# Altium integrated library Motorola Microcontroller 32-Bit.IntLib: 337 symbols (part 23 of 29)
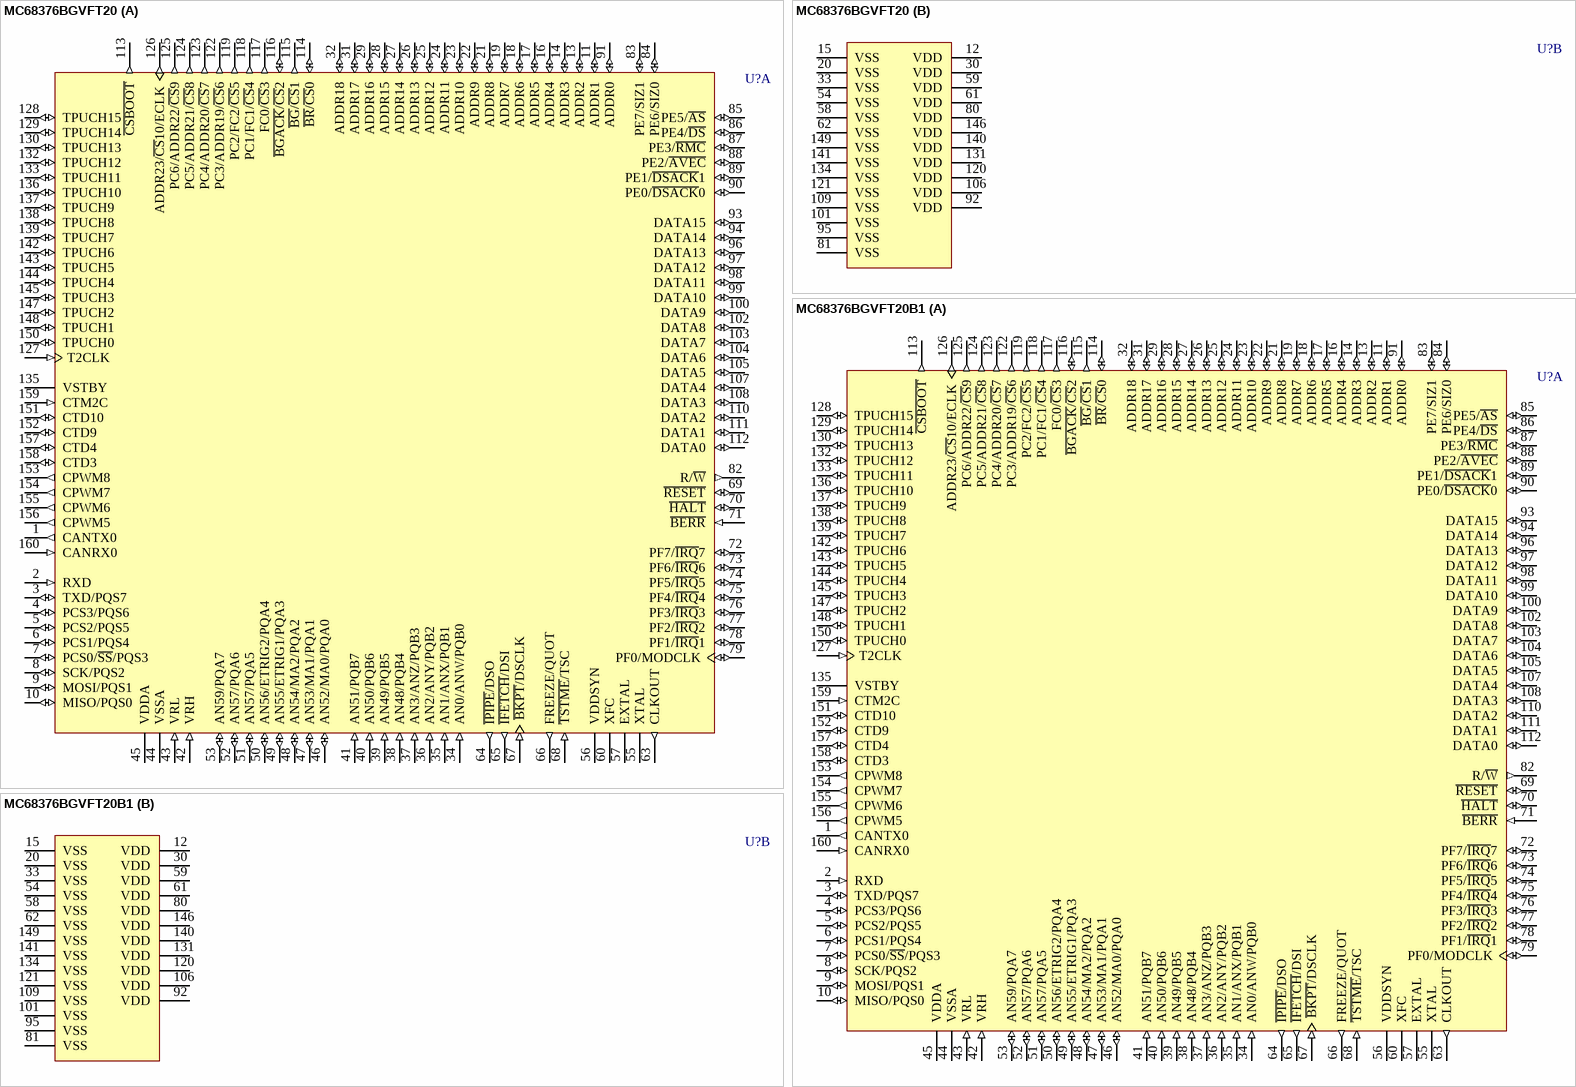
[diagram p261: symbols MC68376BGVFT20 to MC68376BGVFT20B1]

## MC68376BGVFT20
designator U?
32-Bit Microcontroller; Published: 21-Mar-2003; LatestRevisionDate: 13-Apr-2006; LatestRevisionNote: IPC-7351 Footprint Added.; DatasheetVersion: 15-Oct-2000; PackageVersion: 1996; PackageReference: 864A-03; Publisher: Altium Limited; PackageDescription: 160-Pin Plastic Quad Flat Pack 0.65 mm Pitch; Code_IPC: QFP65P3120X3120-160; ComponentLink1Description: Manufacturer Link; ComponentLink1URL: http://www.freescale.com/; ComponentLink2Description: Datasheet; ComponentLink2URL: http://www.freescale.com/files/microcontrollers/doc/data_sheet/MC683336_376UM_ZIP.zip
footprint 864A-03_N (QFP, 160-Leads, Body 28 x 28mm, Pitch 0.65mm, IPC Medium Density)
footprint 864A-03_L (QFP, 160-Leads, Body 28 x 28mm, Pitch 0.65mm, IPC High Density)
footprint 864A-03_M (QFP, 160-Leads, Body 28 x 28mm, Pitch 0.65mm, IPC Low Density)
3D model MC68376-864A-03 (160-Pin Plastic Quad Flat Pack 0.65 mm Pitch)
part A pins: 1 CANTX0 (out), 2 RXD (in), 3 TXD/PQS7 (io), 4 PCS3/PQS6 (io), 5 PCS2/PQS5 (io), 6 PCS1/PQS4 (io), 7 PCS0/~{SS}/PQS3 (io), 8 SCK/PQS2 (io), 9 MOSI/PQS1 (io), 10 MISO/PQS0 (io), 11 ADDR1 (io), 13 ADDR2 (io), 14 ADDR3 (io), 16 ADDR4 (io), 17 ADDR5 (io), 18 ADDR6 (io), 19 ADDR7 (io), 21 ADDR8 (io), 22 ADDR9 (io), 23 ADDR10 (io), 24 ADDR11 (io), 25 ADDR12 (io), 26 ADDR13 (io), 27 ADDR14 (io), 28 ADDR15 (io), 29 ADDR16 (io), 31 ADDR17 (io), 32 ADDR18 (io), 34 AN0/ANW/PQB0 (in), 35 AN1/ANX/PQB1 (in), 36 AN2/ANY/PQB2 (in), 37 AN3/ANZ/PQB3 (in), 38 AN48/PQB4 (in), 39 AN49/PQB5 (in), 40 AN50/PQB6 (in), 41 AN51/PQB7 (in), 42 VRH (in), 43 VRL (in), 44 VSSA (power), 45 VDDA (power), 46 AN52/MA0/PQA0 (io), 47 AN53/MA1/PQA1 (io), 48 AN54/MA2/PQA2 (io), 49 AN55/ETRIG1/PQA3 (io), 50 AN56/ETRIG2/PQA4 (io), 51 AN57/PQA5 (io), 52 AN57/PQA6 (io), 53 AN59/PQA7 (io), 55 XTAL, 56 VDDSYN (power), 57 EXTAL, 60 XFC, 63 CLKOUT (out), 64 ~{IPIPE}/DSO (out), 65 ~{IFETCH}/DSI (out), 66 FREEZE/QUOT (out), 67 ~{BKPT}/DSCLK (in), 68 ~{TSTME}/TSC (in), 69 ~{RESET} (io), 70 ~{HALT} (io), 71 ~{BERR} (in), 72 PF7/~{IRQ}7 (io), 73 PF6/~{IRQ}6 (io), 74 PF5/~{IRQ}5 (io), 75 PF4/~{IRQ}4 (io), 76 PF3/~{IRQ}3 (io), 77 PF2/~{IRQ}2 (io), 78 PF1/~{IRQ}1 (io), 79 PF0/MODCLK (io), 82 R/~{W} (out), 83 PE7/SIZ1 (io), 84 PE6/SIZ0 (io), 85 PE5/~{AS} (io), 86 PE4/~{DS} (io), 87 PE3/~{RMC} (io), 88 PE2/~{AVEC} (io), 89 PE1/~{DSACK}1 (io), 90 PE0/~{DSACK}0 (io), 91 ADDR0 (io), 93 DATA15 (io), 94 DATA14 (io), 96 DATA13 (io), 97 DATA12 (io), 98 DATA11 (io), 99 DATA10 (io), 100 DATA9 (io), 102 DATA8 (io), 103 DATA7 (io), 104 DATA6 (io), 105 DATA5 (io), 107 DATA4 (io), 108 DATA3 (io), 110 DATA2 (io), 111 DATA1 (io), 112 DATA0 (io), 113 ~{CSBOOT} (out), 114 ~{BR}/~{CS}0 (io), 115 ~{BG}/~{CS}1 (out), 116 ~{BGACK}/~{CS}2 (io), 117 FC0/~{CS}3 (out), 118 PC1/FC1/~{CS}4 (out), 119 PC2/FC2/~{CS}5 (out), 122 PC3/ADDR19/~{CS}6 (out), 123 PC4/ADDR20/~{CS}7 (out), 124 PC5/ADDR21/~{CS}8 (out), 125 PC6/ADDR22/~{CS}9 (out), 126 ADDR23/~{CS}10/ECLK (out), 127 T2CLK (in), 128 TPUCH15 (io), 129 TPUCH14 (io), 130 TPUCH13 (io), 132 TPUCH12 (io), 133 TPUCH11 (io), 135 VSTBY (power), 136 TPUCH10 (io), 137 TPUCH9 (io), 138 TPUCH8 (io), 139 TPUCH7 (io), 142 TPUCH6 (io), 143 TPUCH5 (io), 144 TPUCH4 (io), 145 TPUCH3 (io), 147 TPUCH2 (io), 148 TPUCH1 (io), 150 TPUCH0 (io), 151 CTD10 (io), 152 CTD9 (io), 153 CPWM8 (out), 154 CPWM7 (out), 155 CPWM6 (out), 156 CPWM5 (out), 157 CTD4 (io), 158 CTD3 (io), 159 CTM2C (in), 160 CANRX0 (in)
part B pins: 12 VDD (power), 15 VSS (power), 20 VSS (power), 30 VDD (power), 33 VSS (power), 54 VSS (power), 58 VSS (power), 59 VDD (power), 61 VDD (power), 62 VSS (power), 80 VDD (power), 81 VSS (power), 92 VDD (power), 95 VSS (power), 101 VSS (power), 106 VDD (power), 109 VSS (power), 120 VDD (power), 121 VSS (power), 131 VDD (power), 134 VSS (power), 140 VDD (power), 141 VSS (power), 146 VDD (power), 149 VSS (power)

## MC68376BGVFT20B1
designator U?
32-Bit Microcontroller; Published: 21-Mar-2003; LatestRevisionDate: 13-Apr-2006; LatestRevisionNote: IPC-7351 Footprint Added.; DatasheetVersion: 15-Oct-2000; PackageVersion: 1996; PackageReference: 864A-03; Publisher: Altium Limited; PackageDescription: 160-Pin Plastic Quad Flat Pack 0.65 mm Pitch; Code_IPC: QFP65P3120X3120-160; ComponentLink1Description: Manufacturer Link; ComponentLink1URL: http://www.freescale.com/; ComponentLink2Description: Datasheet; ComponentLink2URL: http://www.freescale.com/files/microcontrollers/doc/data_sheet/MC683336_376UM_ZIP.zip
footprint 864A-03_N (QFP, 160-Leads, Body 28 x 28mm, Pitch 0.65mm, IPC Medium Density)
footprint 864A-03_L (QFP, 160-Leads, Body 28 x 28mm, Pitch 0.65mm, IPC High Density)
footprint 864A-03_M (QFP, 160-Leads, Body 28 x 28mm, Pitch 0.65mm, IPC Low Density)
3D model MC68376-864A-03 (160-Pin Plastic Quad Flat Pack 0.65 mm Pitch)
part A pins: 1 CANTX0 (out), 2 RXD (in), 3 TXD/PQS7 (io), 4 PCS3/PQS6 (io), 5 PCS2/PQS5 (io), 6 PCS1/PQS4 (io), 7 PCS0/~{SS}/PQS3 (io), 8 SCK/PQS2 (io), 9 MOSI/PQS1 (io), 10 MISO/PQS0 (io), 11 ADDR1 (io), 13 ADDR2 (io), 14 ADDR3 (io), 16 ADDR4 (io), 17 ADDR5 (io), 18 ADDR6 (io), 19 ADDR7 (io), 21 ADDR8 (io), 22 ADDR9 (io), 23 ADDR10 (io), 24 ADDR11 (io), 25 ADDR12 (io), 26 ADDR13 (io), 27 ADDR14 (io), 28 ADDR15 (io), 29 ADDR16 (io), 31 ADDR17 (io), 32 ADDR18 (io), 34 AN0/ANW/PQB0 (in), 35 AN1/ANX/PQB1 (in), 36 AN2/ANY/PQB2 (in), 37 AN3/ANZ/PQB3 (in), 38 AN48/PQB4 (in), 39 AN49/PQB5 (in), 40 AN50/PQB6 (in), 41 AN51/PQB7 (in), 42 VRH (in), 43 VRL (in), 44 VSSA (power), 45 VDDA (power), 46 AN52/MA0/PQA0 (io), 47 AN53/MA1/PQA1 (io), 48 AN54/MA2/PQA2 (io), 49 AN55/ETRIG1/PQA3 (io), 50 AN56/ETRIG2/PQA4 (io), 51 AN57/PQA5 (io), 52 AN57/PQA6 (io), 53 AN59/PQA7 (io), 55 XTAL, 56 VDDSYN (power), 57 EXTAL, 60 XFC, 63 CLKOUT (out), 64 ~{IPIPE}/DSO (out), 65 ~{IFETCH}/DSI (out), 66 FREEZE/QUOT (out), 67 ~{BKPT}/DSCLK (in), 68 ~{TSTME}/TSC (in), 69 ~{RESET} (io), 70 ~{HALT} (io), 71 ~{BERR} (in), 72 PF7/~{IRQ}7 (io), 73 PF6/~{IRQ}6 (io), 74 PF5/~{IRQ}5 (io), 75 PF4/~{IRQ}4 (io), 76 PF3/~{IRQ}3 (io), 77 PF2/~{IRQ}2 (io), 78 PF1/~{IRQ}1 (io), 79 PF0/MODCLK (io), 82 R/~{W} (out), 83 PE7/SIZ1 (io), 84 PE6/SIZ0 (io), 85 PE5/~{AS} (io), 86 PE4/~{DS} (io), 87 PE3/~{RMC} (io), 88 PE2/~{AVEC} (io), 89 PE1/~{DSACK}1 (io), 90 PE0/~{DSACK}0 (io), 91 ADDR0 (io), 93 DATA15 (io), 94 DATA14 (io), 96 DATA13 (io), 97 DATA12 (io), 98 DATA11 (io), 99 DATA10 (io), 100 DATA9 (io), 102 DATA8 (io), 103 DATA7 (io), 104 DATA6 (io), 105 DATA5 (io), 107 DATA4 (io), 108 DATA3 (io), 110 DATA2 (io), 111 DATA1 (io), 112 DATA0 (io), 113 ~{CSBOOT} (out), 114 ~{BR}/~{CS}0 (io), 115 ~{BG}/~{CS}1 (out), 116 ~{BGACK}/~{CS}2 (io), 117 FC0/~{CS}3 (out), 118 PC1/FC1/~{CS}4 (out), 119 PC2/FC2/~{CS}5 (out), 122 PC3/ADDR19/~{CS}6 (out), 123 PC4/ADDR20/~{CS}7 (out), 124 PC5/ADDR21/~{CS}8 (out), 125 PC6/ADDR22/~{CS}9 (out), 126 ADDR23/~{CS}10/ECLK (out), 127 T2CLK (in), 128 TPUCH15 (io), 129 TPUCH14 (io), 130 TPUCH13 (io), 132 TPUCH12 (io), 133 TPUCH11 (io), 135 VSTBY (power), 136 TPUCH10 (io), 137 TPUCH9 (io), 138 TPUCH8 (io), 139 TPUCH7 (io), 142 TPUCH6 (io), 143 TPUCH5 (io), 144 TPUCH4 (io), 145 TPUCH3 (io), 147 TPUCH2 (io), 148 TPUCH1 (io), 150 TPUCH0 (io), 151 CTD10 (io), 152 CTD9 (io), 153 CPWM8 (out), 154 CPWM7 (out), 155 CPWM6 (out), 156 CPWM5 (out), 157 CTD4 (io), 158 CTD3 (io), 159 CTM2C (in), 160 CANRX0 (in)
part B pins: 12 VDD (power), 15 VSS (power), 20 VSS (power), 30 VDD (power), 33 VSS (power), 54 VSS (power), 58 VSS (power), 59 VDD (power), 61 VDD (power), 62 VSS (power), 80 VDD (power), 81 VSS (power), 92 VDD (power), 95 VSS (power), 101 VSS (power), 106 VDD (power), 109 VSS (power), 120 VDD (power), 121 VSS (power), 131 VDD (power), 134 VSS (power), 140 VDD (power), 141 VSS (power), 146 VDD (power), 149 VSS (power)

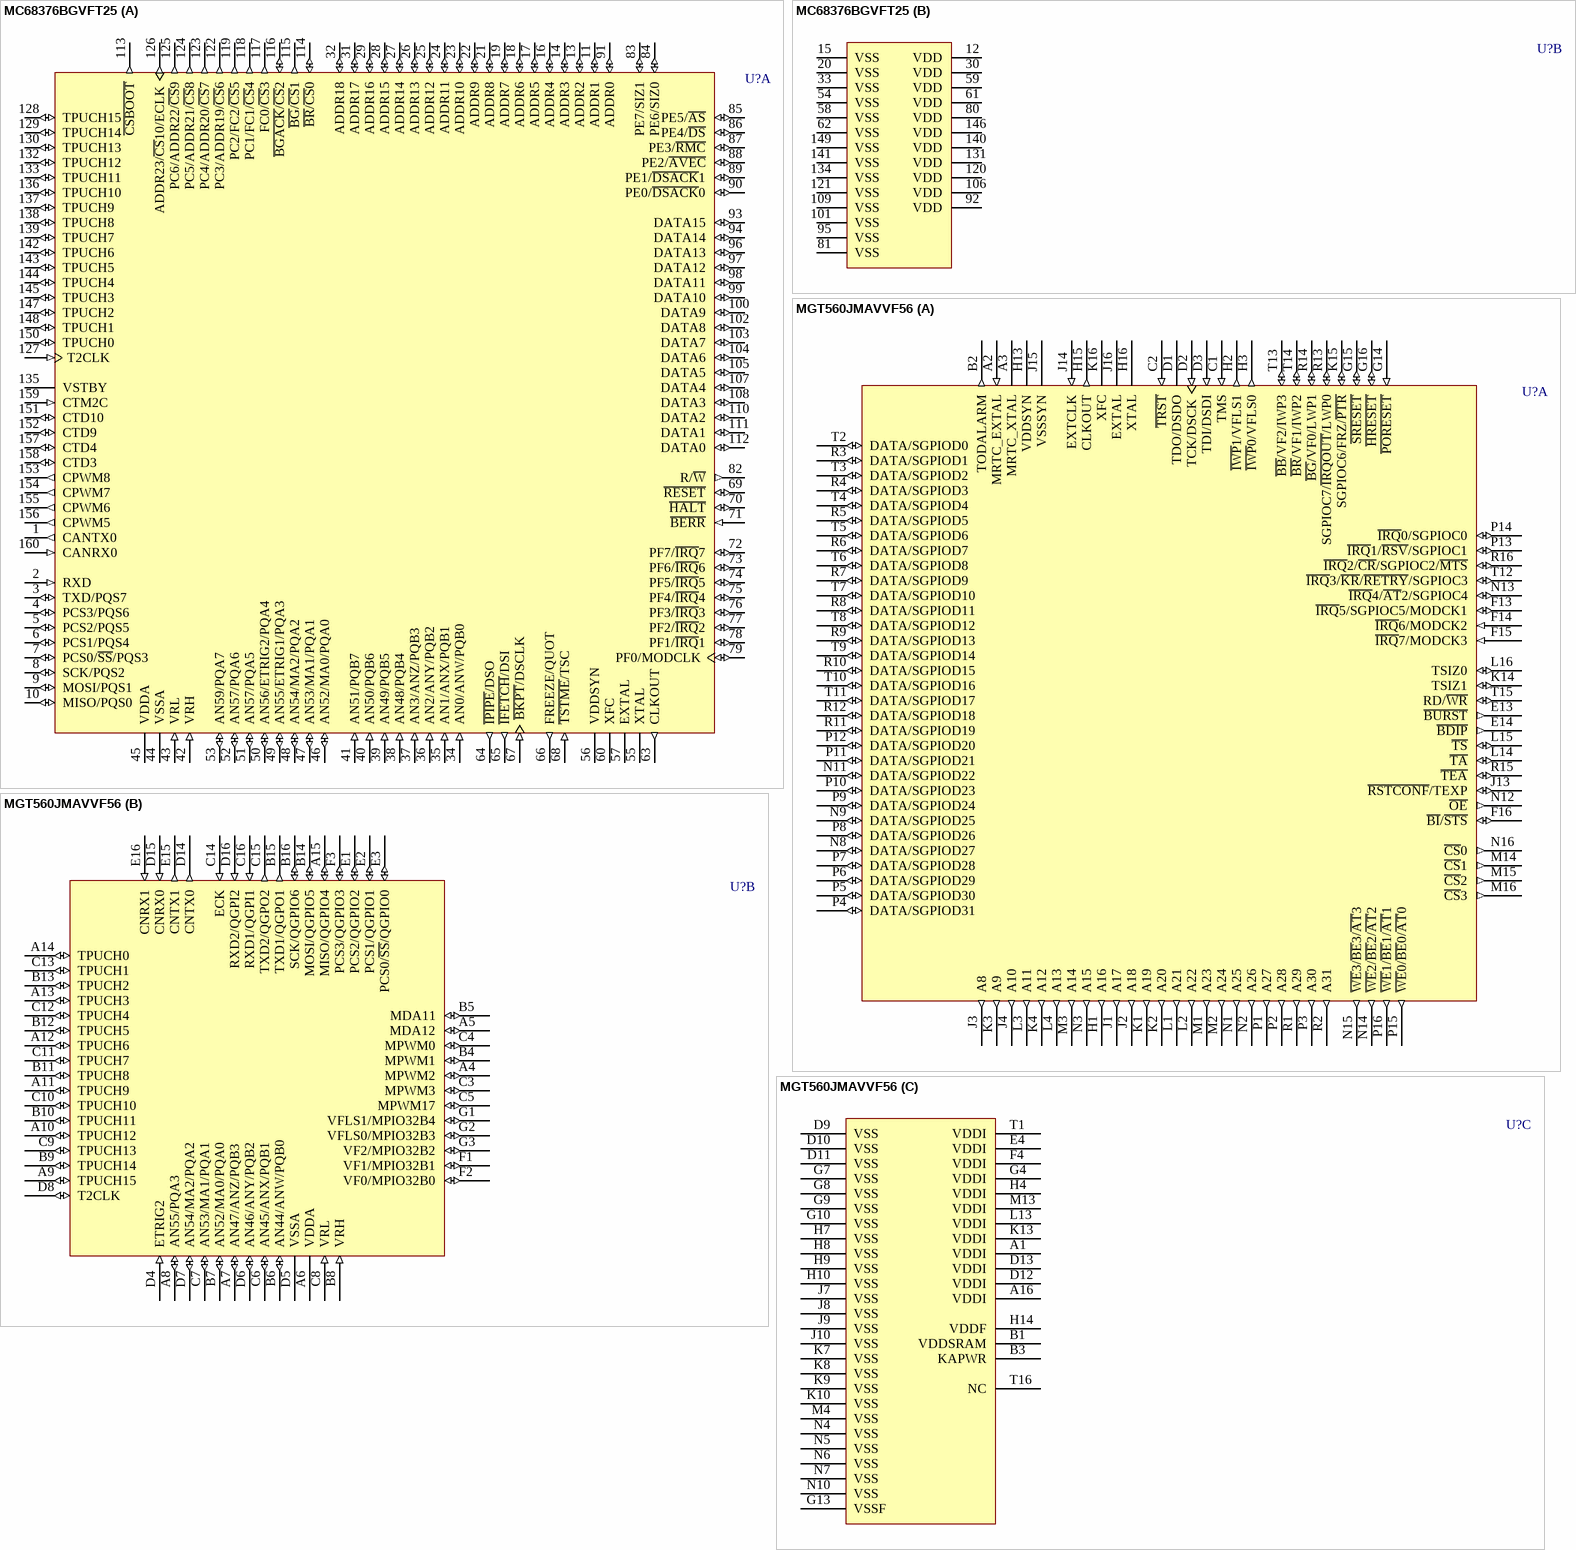
[diagram p191: symbols MC68376BGVFT25 to MGT560JMAVVF56]

## MC68376BGVFT25
designator U?
32-Bit Microcontroller; Published: 21-Mar-2003; LatestRevisionDate: 13-Apr-2006; LatestRevisionNote: IPC-7351 Footprint Added.; DatasheetVersion: 15-Oct-2000; PackageVersion: 1996; PackageReference: 864A-03; Publisher: Altium Limited; PackageDescription: 160-Pin Plastic Quad Flat Pack 0.65 mm Pitch; Code_IPC: QFP65P3120X3120-160; ComponentLink1Description: Manufacturer Link; ComponentLink1URL: http://www.freescale.com/; ComponentLink2Description: Datasheet; ComponentLink2URL: http://www.freescale.com/files/microcontrollers/doc/data_sheet/MC683336_376UM_ZIP.zip
footprint 864A-03_N (QFP, 160-Leads, Body 28 x 28mm, Pitch 0.65mm, IPC Medium Density)
footprint 864A-03_L (QFP, 160-Leads, Body 28 x 28mm, Pitch 0.65mm, IPC High Density)
footprint 864A-03_M (QFP, 160-Leads, Body 28 x 28mm, Pitch 0.65mm, IPC Low Density)
3D model MC68376-864A-03 (160-Pin Plastic Quad Flat Pack 0.65 mm Pitch)
part A pins: 1 CANTX0 (out), 2 RXD (in), 3 TXD/PQS7 (io), 4 PCS3/PQS6 (io), 5 PCS2/PQS5 (io), 6 PCS1/PQS4 (io), 7 PCS0/~{SS}/PQS3 (io), 8 SCK/PQS2 (io), 9 MOSI/PQS1 (io), 10 MISO/PQS0 (io), 11 ADDR1 (io), 13 ADDR2 (io), 14 ADDR3 (io), 16 ADDR4 (io), 17 ADDR5 (io), 18 ADDR6 (io), 19 ADDR7 (io), 21 ADDR8 (io), 22 ADDR9 (io), 23 ADDR10 (io), 24 ADDR11 (io), 25 ADDR12 (io), 26 ADDR13 (io), 27 ADDR14 (io), 28 ADDR15 (io), 29 ADDR16 (io), 31 ADDR17 (io), 32 ADDR18 (io), 34 AN0/ANW/PQB0 (in), 35 AN1/ANX/PQB1 (in), 36 AN2/ANY/PQB2 (in), 37 AN3/ANZ/PQB3 (in), 38 AN48/PQB4 (in), 39 AN49/PQB5 (in), 40 AN50/PQB6 (in), 41 AN51/PQB7 (in), 42 VRH (in), 43 VRL (in), 44 VSSA (power), 45 VDDA (power), 46 AN52/MA0/PQA0 (io), 47 AN53/MA1/PQA1 (io), 48 AN54/MA2/PQA2 (io), 49 AN55/ETRIG1/PQA3 (io), 50 AN56/ETRIG2/PQA4 (io), 51 AN57/PQA5 (io), 52 AN57/PQA6 (io), 53 AN59/PQA7 (io), 55 XTAL, 56 VDDSYN (power), 57 EXTAL, 60 XFC, 63 CLKOUT (out), 64 ~{IPIPE}/DSO (out), 65 ~{IFETCH}/DSI (out), 66 FREEZE/QUOT (out), 67 ~{BKPT}/DSCLK (in), 68 ~{TSTME}/TSC (in), 69 ~{RESET} (io), 70 ~{HALT} (io), 71 ~{BERR} (in), 72 PF7/~{IRQ}7 (io), 73 PF6/~{IRQ}6 (io), 74 PF5/~{IRQ}5 (io), 75 PF4/~{IRQ}4 (io), 76 PF3/~{IRQ}3 (io), 77 PF2/~{IRQ}2 (io), 78 PF1/~{IRQ}1 (io), 79 PF0/MODCLK (io), 82 R/~{W} (out), 83 PE7/SIZ1 (io), 84 PE6/SIZ0 (io), 85 PE5/~{AS} (io), 86 PE4/~{DS} (io), 87 PE3/~{RMC} (io), 88 PE2/~{AVEC} (io), 89 PE1/~{DSACK}1 (io), 90 PE0/~{DSACK}0 (io), 91 ADDR0 (io), 93 DATA15 (io), 94 DATA14 (io), 96 DATA13 (io), 97 DATA12 (io), 98 DATA11 (io), 99 DATA10 (io), 100 DATA9 (io), 102 DATA8 (io), 103 DATA7 (io), 104 DATA6 (io), 105 DATA5 (io), 107 DATA4 (io), 108 DATA3 (io), 110 DATA2 (io), 111 DATA1 (io), 112 DATA0 (io), 113 ~{CSBOOT} (out), 114 ~{BR}/~{CS}0 (io), 115 ~{BG}/~{CS}1 (out), 116 ~{BGACK}/~{CS}2 (io), 117 FC0/~{CS}3 (out), 118 PC1/FC1/~{CS}4 (out), 119 PC2/FC2/~{CS}5 (out), 122 PC3/ADDR19/~{CS}6 (out), 123 PC4/ADDR20/~{CS}7 (out), 124 PC5/ADDR21/~{CS}8 (out), 125 PC6/ADDR22/~{CS}9 (out), 126 ADDR23/~{CS}10/ECLK (out), 127 T2CLK (in), 128 TPUCH15 (io), 129 TPUCH14 (io), 130 TPUCH13 (io), 132 TPUCH12 (io), 133 TPUCH11 (io), 135 VSTBY (power), 136 TPUCH10 (io), 137 TPUCH9 (io), 138 TPUCH8 (io), 139 TPUCH7 (io), 142 TPUCH6 (io), 143 TPUCH5 (io), 144 TPUCH4 (io), 145 TPUCH3 (io), 147 TPUCH2 (io), 148 TPUCH1 (io), 150 TPUCH0 (io), 151 CTD10 (io), 152 CTD9 (io), 153 CPWM8 (out), 154 CPWM7 (out), 155 CPWM6 (out), 156 CPWM5 (out), 157 CTD4 (io), 158 CTD3 (io), 159 CTM2C (in), 160 CANRX0 (in)
part B pins: 12 VDD (power), 15 VSS (power), 20 VSS (power), 30 VDD (power), 33 VSS (power), 54 VSS (power), 58 VSS (power), 59 VDD (power), 61 VDD (power), 62 VSS (power), 80 VDD (power), 81 VSS (power), 92 VDD (power), 95 VSS (power), 101 VSS (power), 106 VDD (power), 109 VSS (power), 120 VDD (power), 121 VSS (power), 131 VDD (power), 134 VSS (power), 140 VDD (power), 141 VSS (power), 146 VDD (power), 149 VSS (power)

## MGT560JMAVVF56
designator U?
32-Bit Microcontroller; Published: 21-Mar-2003; LatestRevisionDate: 13-Apr-2006; LatestRevisionNote: IPC-7351 Footprint Added.; DatasheetVersion: 10-Jun-2002; PackageVersion: rev0, Jun-2002; PackageReference: 1159A-01; Publisher: Altium Limited; PackageDescription: 208-Ball MAP-Ball Grid Array 1 mm Pitch; ComponentLink1Description: Manufacturer Link; ComponentLink1URL: http://www.freescale.com/
footprint 1159A-01 (BGA, 208-Leads, Body 17x17mm, Pitch 1mm)
3D model MGT560-1159A-01 (208-Ball MAP-Ball Grid Array 1 mm Pitch)
part A pins: A2 MRTC_EXTAL (in), A3 MRTC_XTAL, B2 TODALARM (out), C1 TMS (in), C2 ~{TRST} (in), D1 TDO/DSDO (hiz), D2 TCK/DSCK (in), D3 TDI/DSDI (in), E13 ~{BURST} (out), E14 ~{BDIP} (out), F13 ~{IRQ}5/SGPIOC5/MODCK1 (io), F14 ~{IRQ}6/MODCK2 (in), F15 ~{IRQ}7/MODCK3 (in), F16 ~{BI}/~{STS} (io), G14 ~{PORESET} (in), G15 ~{SRESET} (io), G16 ~{HRESET} (io), H1 A16 (out), H2 ~{IWP}1/VFLS1 (out), H3 ~{IWP}0/VFLS0 (out), H13 VDDSYN (power), H15 CLKOUT (out), H16 XTAL, J1 A17 (out), J2 A18 (out), J3 A8 (out), J4 A10 (out), J13 ~{RSTCONF}/TEXP (io), J14 EXTCLK (in), J15 VSSSYN (power), J16 EXTAL, K1 A19 (out), K2 A20 (out), K3 A9 (out), K4 A12 (out), K14 TSIZ1 (io), K15 SGPIOC6/FRZ/~{PTR} (io), K16 XFC, L1 A21 (out), L2 A22 (out), L3 A11 (out), L4 A13 (out), L14 ~{TA} (io), L15 ~{TS} (io), L16 TSIZ0 (io), M1 A23 (out), M2 A24 (out), M3 A14 (out), M14 ~{CS}1 (out), M15 ~{CS}2 (out), M16 ~{CS}3 (out), N1 A25 (out), N2 A26 (out), N3 A15 (out), N8 DATA/SGPIOD27 (io), N9 DATA/SGPIOD25 (io), N11 DATA/SGPIOD22 (io), N12 ~{OE} (out), N13 ~{IRQ}4/~{AT}2/SGPIOC4 (io), N14 ~{WE}2/~{BE}2/~{AT}2 (out), N15 ~{WE}3/~{BE}3/~{AT}3 (out), N16 ~{CS}0 (out), P1 A27 (out), P2 A28 (out), P3 A30 (out), P4 DATA/SGPIOD31 (io), P5 DATA/SGPIOD30 (io), P6 DATA/SGPIOD29 (io), P7 DATA/SGPIOD28 (io), P8 DATA/SGPIOD26 (io), P9 DATA/SGPIOD24 (io), P10 DATA/SGPIOD23 (io), P11 DATA/SGPIOD21 (io), P12 DATA/SGPIOD20 (io), P13 ~{IRQ}1/~{RSV}/SGPIOC1 (io), P14 ~{IRQ}0/SGPIOC0 (io), P15 ~{WE}0/~{BE}0/~{AT}0 (out), P16 ~{WE}1/~{BE}1/~{AT}1 (out), R1 A29 (out), R2 A31 (out), R3 DATA/SGPIOD1 (io), R4 DATA/SGPIOD3 (io), R5 DATA/SGPIOD5 (io), R6 DATA/SGPIOD7 (io), R7 DATA/SGPIOD9 (io), R8 DATA/SGPIOD11 (io), R9 DATA/SGPIOD13 (io), R10 DATA/SGPIOD15 (io), R11 DATA/SGPIOD19 (io), R12 DATA/SGPIOD18 (io), R13 SGPIOC7/~{IRQOUT}/LWP0 (io), R14 ~{BG}/VF0/LWP1 (io), R15 ~{TEA} (io), R16 ~{IRQ}2/~{CR}/SGPIOC2/~{MTS} (io), T2 DATA/SGPIOD0 (io), T3 DATA/SGPIOD2 (io), T4 DATA/SGPIOD4 (io), T5 DATA/SGPIOD6 (io), T6 DATA/SGPIOD8 (io), T7 DATA/SGPIOD10 (io), T8 DATA/SGPIOD12 (io), T9 DATA/SGPIOD14 (io), T10 DATA/SGPIOD16 (io), T11 DATA/SGPIOD17 (io), T12 ~{IRQ}3/~{KR}/~{RETRY}/SGPIOC3 (io), T13 ~{BB}/VF2/IWP3 (io), T14 ~{BR}/VF1/IWP2 (io), T15 RD/~{WR} (io)
part B pins: A4 MPWM2 (io), A5 MDA12 (io), A6 VDDA (power), A7 AN47/ANZ/PQB3 (io), A8 AN55/PQA3 (io), A9 TPUCH15 (io), A10 TPUCH12 (io), A11 TPUCH9 (io), A12 TPUCH6 (io), A13 TPUCH3 (io), A14 TPUCH0 (io), A15 MISO/QGPIO4 (io), B4 MPWM1 (io), B5 MDA11 (io), B6 AN44/ANW/PQB0 (io), B7 AN52/MA0/PQA0 (io), B8 VRH (in), B9 TPUCH14 (io), B10 TPUCH11 (io), B11 TPUCH8 (io), B12 TPUCH5 (io), B13 TPUCH2 (io), B14 MOSI/QGPIO5 (io), B15 TXD1/QGPO1 (out), B16 SCK/QGPIO6 (io), C3 MPWM3 (io), C4 MPWM0 (io), C5 MPWM17 (io), C6 AN45/ANX/PQB1 (io), C7 AN53/MA1/PQA1 (io), C8 VRL (in), C9 TPUCH13 (io), C10 TPUCH10 (io), C11 TPUCH7 (io), C12 TPUCH4 (io), C13 TPUCH1 (io), C14 ECK (in), C15 TXD2/QGPO2 (out), C16 RXD1/QGPI1 (in), D4 ETRIG2 (in), D5 VSSA (power), D6 AN46/ANY/PQB2 (io), D7 AN54/MA2/PQA2 (io), D8 T2CLK (io), D14 CNTX0 (out), D15 CNRX0 (in), D16 RXD2/QGPI2 (in), E1 PCS2/QGPIO2 (io), E2 PCS1/QGPIO1 (io), E3 PCS0/~{SS}/QGPIO0 (io), E15 CNTX1 (out), E16 CNRX1 (in), F1 VF1/MPIO32B1 (io), F2 VF0/MPIO32B0 (io), F3 PCS3/QGPIO3 (io), G1 VFLS1/MPIO32B4 (io), G2 VFLS0/MPIO32B3 (io), G3 VF2/MPIO32B2 (io)
part C pins: A1 VDDI (power), A16 VDDI (power), B1 VDDSRAM (power), B3 KAPWR (power), D9 VSS (power), D10 VSS (power), D11 VSS (power), D12 VDDI (power), D13 VDDI (power), E4 VDDI (power), F4 VDDI (power), G4 VDDI (power), G7 VSS (power), G8 VSS (power), G9 VSS (power), G10 VSS (power), G13 VSSF (power), H4 VDDI (power), H7 VSS (power), H8 VSS (power), H9 VSS (power), H10 VSS (power), H14 VDDF (power), J7 VSS (power), J8 VSS (power), J9 VSS (power), J10 VSS (power), K7 VSS (power), K8 VSS (power), K9 VSS (power), K10 VSS (power), K13 VDDI (power), L13 VDDI (power), M4 VSS (power), M13 VDDI (power), N4 VSS (power), N5 VSS (power), N6 VSS (power), N7 VSS (power), N10 VSS (power), T1 VDDI (power), T16 NC

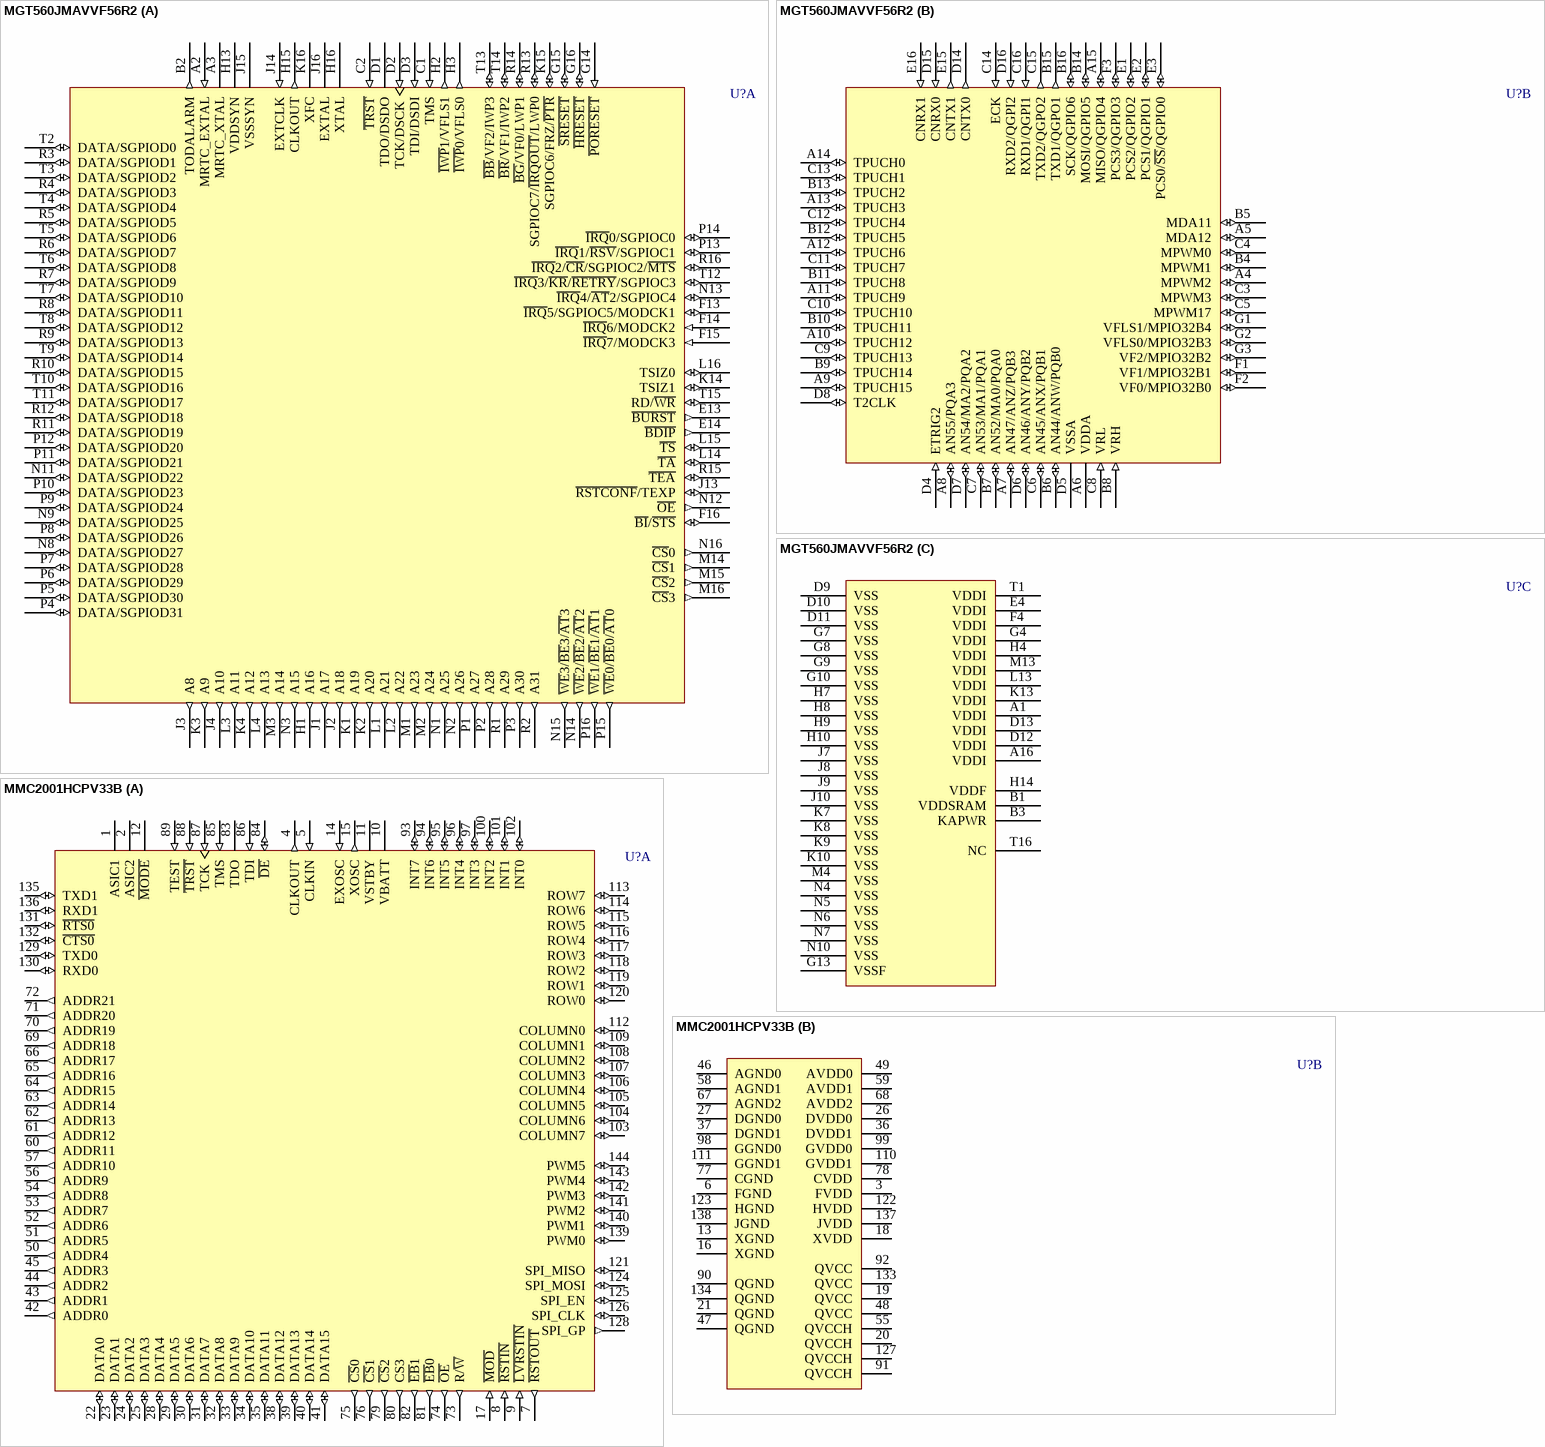
[diagram p192: symbols MGT560JMAVVF56R2 to MMC2001HCPV33B]

## MGT560JMAVVF56R2
designator U?
32-Bit Microcontroller; Published: 21-Mar-2003; LatestRevisionDate: 13-Apr-2006; LatestRevisionNote: IPC-7351 Footprint Added.; DatasheetVersion: 10-Jun-2002; PackageVersion: rev0, Jun-2002; PackageReference: 1159A-01; Publisher: Altium Limited; PackageDescription: 208-Ball MAP-Ball Grid Array 1 mm Pitch; ComponentLink1Description: Manufacturer Link; ComponentLink1URL: http://www.freescale.com/
footprint 1159A-01 (BGA, 208-Leads, Body 17x17mm, Pitch 1mm)
3D model MGT560-1159A-01 (208-Ball MAP-Ball Grid Array 1 mm Pitch)
part A pins: A2 MRTC_EXTAL (in), A3 MRTC_XTAL, B2 TODALARM (out), C1 TMS (in), C2 ~{TRST} (in), D1 TDO/DSDO (hiz), D2 TCK/DSCK (in), D3 TDI/DSDI (in), E13 ~{BURST} (out), E14 ~{BDIP} (out), F13 ~{IRQ}5/SGPIOC5/MODCK1 (io), F14 ~{IRQ}6/MODCK2 (in), F15 ~{IRQ}7/MODCK3 (in), F16 ~{BI}/~{STS} (io), G14 ~{PORESET} (in), G15 ~{SRESET} (io), G16 ~{HRESET} (io), H1 A16 (out), H2 ~{IWP}1/VFLS1 (out), H3 ~{IWP}0/VFLS0 (out), H13 VDDSYN (power), H15 CLKOUT (out), H16 XTAL, J1 A17 (out), J2 A18 (out), J3 A8 (out), J4 A10 (out), J13 ~{RSTCONF}/TEXP (io), J14 EXTCLK (in), J15 VSSSYN (power), J16 EXTAL, K1 A19 (out), K2 A20 (out), K3 A9 (out), K4 A12 (out), K14 TSIZ1 (io), K15 SGPIOC6/FRZ/~{PTR} (io), K16 XFC, L1 A21 (out), L2 A22 (out), L3 A11 (out), L4 A13 (out), L14 ~{TA} (io), L15 ~{TS} (io), L16 TSIZ0 (io), M1 A23 (out), M2 A24 (out), M3 A14 (out), M14 ~{CS}1 (out), M15 ~{CS}2 (out), M16 ~{CS}3 (out), N1 A25 (out), N2 A26 (out), N3 A15 (out), N8 DATA/SGPIOD27 (io), N9 DATA/SGPIOD25 (io), N11 DATA/SGPIOD22 (io), N12 ~{OE} (out), N13 ~{IRQ}4/~{AT}2/SGPIOC4 (io), N14 ~{WE}2/~{BE}2/~{AT}2 (out), N15 ~{WE}3/~{BE}3/~{AT}3 (out), N16 ~{CS}0 (out), P1 A27 (out), P2 A28 (out), P3 A30 (out), P4 DATA/SGPIOD31 (io), P5 DATA/SGPIOD30 (io), P6 DATA/SGPIOD29 (io), P7 DATA/SGPIOD28 (io), P8 DATA/SGPIOD26 (io), P9 DATA/SGPIOD24 (io), P10 DATA/SGPIOD23 (io), P11 DATA/SGPIOD21 (io), P12 DATA/SGPIOD20 (io), P13 ~{IRQ}1/~{RSV}/SGPIOC1 (io), P14 ~{IRQ}0/SGPIOC0 (io), P15 ~{WE}0/~{BE}0/~{AT}0 (out), P16 ~{WE}1/~{BE}1/~{AT}1 (out), R1 A29 (out), R2 A31 (out), R3 DATA/SGPIOD1 (io), R4 DATA/SGPIOD3 (io), R5 DATA/SGPIOD5 (io), R6 DATA/SGPIOD7 (io), R7 DATA/SGPIOD9 (io), R8 DATA/SGPIOD11 (io), R9 DATA/SGPIOD13 (io), R10 DATA/SGPIOD15 (io), R11 DATA/SGPIOD19 (io), R12 DATA/SGPIOD18 (io), R13 SGPIOC7/~{IRQOUT}/LWP0 (io), R14 ~{BG}/VF0/LWP1 (io), R15 ~{TEA} (io), R16 ~{IRQ}2/~{CR}/SGPIOC2/~{MTS} (io), T2 DATA/SGPIOD0 (io), T3 DATA/SGPIOD2 (io), T4 DATA/SGPIOD4 (io), T5 DATA/SGPIOD6 (io), T6 DATA/SGPIOD8 (io), T7 DATA/SGPIOD10 (io), T8 DATA/SGPIOD12 (io), T9 DATA/SGPIOD14 (io), T10 DATA/SGPIOD16 (io), T11 DATA/SGPIOD17 (io), T12 ~{IRQ}3/~{KR}/~{RETRY}/SGPIOC3 (io), T13 ~{BB}/VF2/IWP3 (io), T14 ~{BR}/VF1/IWP2 (io), T15 RD/~{WR} (io)
part B pins: A4 MPWM2 (io), A5 MDA12 (io), A6 VDDA (power), A7 AN47/ANZ/PQB3 (io), A8 AN55/PQA3 (io), A9 TPUCH15 (io), A10 TPUCH12 (io), A11 TPUCH9 (io), A12 TPUCH6 (io), A13 TPUCH3 (io), A14 TPUCH0 (io), A15 MISO/QGPIO4 (io), B4 MPWM1 (io), B5 MDA11 (io), B6 AN44/ANW/PQB0 (io), B7 AN52/MA0/PQA0 (io), B8 VRH (in), B9 TPUCH14 (io), B10 TPUCH11 (io), B11 TPUCH8 (io), B12 TPUCH5 (io), B13 TPUCH2 (io), B14 MOSI/QGPIO5 (io), B15 TXD1/QGPO1 (out), B16 SCK/QGPIO6 (io), C3 MPWM3 (io), C4 MPWM0 (io), C5 MPWM17 (io), C6 AN45/ANX/PQB1 (io), C7 AN53/MA1/PQA1 (io), C8 VRL (in), C9 TPUCH13 (io), C10 TPUCH10 (io), C11 TPUCH7 (io), C12 TPUCH4 (io), C13 TPUCH1 (io), C14 ECK (in), C15 TXD2/QGPO2 (out), C16 RXD1/QGPI1 (in), D4 ETRIG2 (in), D5 VSSA (power), D6 AN46/ANY/PQB2 (io), D7 AN54/MA2/PQA2 (io), D8 T2CLK (io), D14 CNTX0 (out), D15 CNRX0 (in), D16 RXD2/QGPI2 (in), E1 PCS2/QGPIO2 (io), E2 PCS1/QGPIO1 (io), E3 PCS0/~{SS}/QGPIO0 (io), E15 CNTX1 (out), E16 CNRX1 (in), F1 VF1/MPIO32B1 (io), F2 VF0/MPIO32B0 (io), F3 PCS3/QGPIO3 (io), G1 VFLS1/MPIO32B4 (io), G2 VFLS0/MPIO32B3 (io), G3 VF2/MPIO32B2 (io)
part C pins: A1 VDDI (power), A16 VDDI (power), B1 VDDSRAM (power), B3 KAPWR (power), D9 VSS (power), D10 VSS (power), D11 VSS (power), D12 VDDI (power), D13 VDDI (power), E4 VDDI (power), F4 VDDI (power), G4 VDDI (power), G7 VSS (power), G8 VSS (power), G9 VSS (power), G10 VSS (power), G13 VSSF (power), H4 VDDI (power), H7 VSS (power), H8 VSS (power), H9 VSS (power), H10 VSS (power), H14 VDDF (power), J7 VSS (power), J8 VSS (power), J9 VSS (power), J10 VSS (power), K7 VSS (power), K8 VSS (power), K9 VSS (power), K10 VSS (power), K13 VDDI (power), L13 VDDI (power), M4 VSS (power), M13 VDDI (power), N4 VSS (power), N5 VSS (power), N6 VSS (power), N7 VSS (power), N10 VSS (power), T1 VDDI (power), T16 NC

## MMC2001HCPV33B
designator U?
32-Bit Microcontroller; Note: Pin 12 (MODE) must be grounded for proper operation but is NOT a system gnd.; Published: 21-Mar-2003; LatestRevisionDate: 13-Apr-2006; LatestRevisionNote: IPC-7351 Footprint Added.; DatasheetVersion: Jan-1998; PackageVersion: rev7, Jan-2002; PackageReference: 918-03; Publisher: Altium Limited; PackageDescription: 144-Pin Thin Quad Flat Pack 0.5 mm Pitch; ComponentLink1Description: Manufacturer Link; ComponentLink1URL: http://www.freescale.com/
footprint 918-03_N (Thin QFP, 144-Leads, Body 20x20mm, Pitch 0.5mm, IPC Medium Density)
footprint 918-03_L (Thin QFP, 144-Leads, Body 20x20mm, Pitch 0.5mm, IPC High Density)
footprint 918-03_M (Thin QFP, 144-Leads, Body 20x20mm, Pitch 0.5mm, IPC Low Density)
3D model MMC2001-918 (144-Pin Thin Quad Flat Pack 0.5 mm Pitch)
part A pins: 1 ASIC1, 2 ASIC2, 4 CLKOUT (out), 5 CLKIN (in), 7 ~{RSTOUT} (out), 8 ~{RSTIN} (in), 9 ~{LVRSTIN} (in), 10 VBATT (power), 11 VSTBY (power), 12 ~{MODE}, 14 EXOSC (in), 15 XOSC (out), 17 ~{MOD} (in), 22 DATA0 (io), 23 DATA1 (io), 24 DATA2 (io), 25 DATA3 (io), 28 DATA4 (io), 29 DATA5 (io), 30 DATA6 (io), 31 DATA7 (io), 32 DATA8 (io), 33 DATA9 (io), 34 DATA10 (io), 35 DATA11 (io), 38 DATA12 (io), 39 DATA13 (io), 40 DATA14 (io), 41 DATA15 (io), 42 ADDR0 (out), 43 ADDR1 (out), 44 ADDR2 (out), 45 ADDR3 (out), 50 ADDR4 (out), 51 ADDR5 (out), 52 ADDR6 (out), 53 ADDR7 (out), 54 ADDR8 (out), 56 ADDR9 (out), 57 ADDR10 (out), 60 ADDR11 (out), 61 ADDR12 (out), 62 ADDR13 (out), 63 ADDR14 (out), 64 ADDR15 (out), 65 ADDR16 (out), 66 ADDR17 (out), 69 ADDR18 (out), 70 ADDR19 (out), 71 ADDR20 (out), 72 ADDR21 (out), 73 R/~{W} (out), 74 ~{OE} (out), 75 ~{CS}0 (out), 76 ~{CS}1 (out), 79 ~{CS}2 (out), 80 CS3 (out), 81 ~{EB}0 (out), 82 ~{EB}1 (out), 83 TDO (hiz), 84 ~{DE} (io), 85 TMS (in), 86 TDI (in), 87 TCK (in), 88 ~{TRST} (in), 89 TEST (in), 93 INT7 (io), 94 INT6 (io), 95 INT5 (io), 96 INT4 (io), 97 INT3 (io), 100 INT2 (io), 101 INT1 (io), 102 INT0 (io), 103 COLUMN7 (io), 104 COLUMN6 (io), 105 COLUMN5 (io), 106 COLUMN4 (io), 107 COLUMN3 (io), 108 COLUMN2 (io), 109 COLUMN1 (io), 112 COLUMN0 (io), 113 ROW7 (io), 114 ROW6 (io), 115 ROW5 (io), 116 ROW4 (io), 117 ROW3 (io), 118 ROW2 (io), 119 ROW1 (io), 120 ROW0 (io), 121 SPI_MISO (io), 124 SPI_MOSI (io), 125 SPI_EN (io), 126 SPI_CLK (io), 128 SPI_GP (out), 129 TXD0 (io), 130 RXD0 (io), 131 ~{RTS0} (io), 132 ~{CTS0} (io), 135 TXD1 (io), 136 RXD1 (io), 139 PWM0 (io), 140 PWM1 (io), 141 PWM2 (io), 142 PWM3 (io), 143 PWM4 (io), 144 PWM5 (io)
part B pins: 3 FVDD (power), 6 FGND (power), 13 XGND (power), 16 XGND (power), 18 XVDD (power), 19 QVCC (power), 20 QVCCH (power), 21 QGND (power), 26 DVDD0 (power), 27 DGND0 (power), 36 DVDD1 (power), 37 DGND1 (power), 46 AGND0 (power), 47 QGND (power), 48 QVCC (power), 49 AVDD0 (power), 55 QVCCH (power), 58 AGND1 (power), 59 AVDD1 (power), 67 AGND2 (power), 68 AVDD2 (power), 77 CGND (power), 78 CVDD (power), 90 QGND (power), 91 QVCCH (power), 92 QVCC (power), 98 GGND0 (power), 99 GVDD0 (power), 110 GVDD1 (power), 111 GGND1 (power), 122 HVDD (power), 123 HGND (power), 127 QVCCH (power), 133 QVCC (power), 134 QGND (power), 137 JVDD (power), 138 JGND (power)

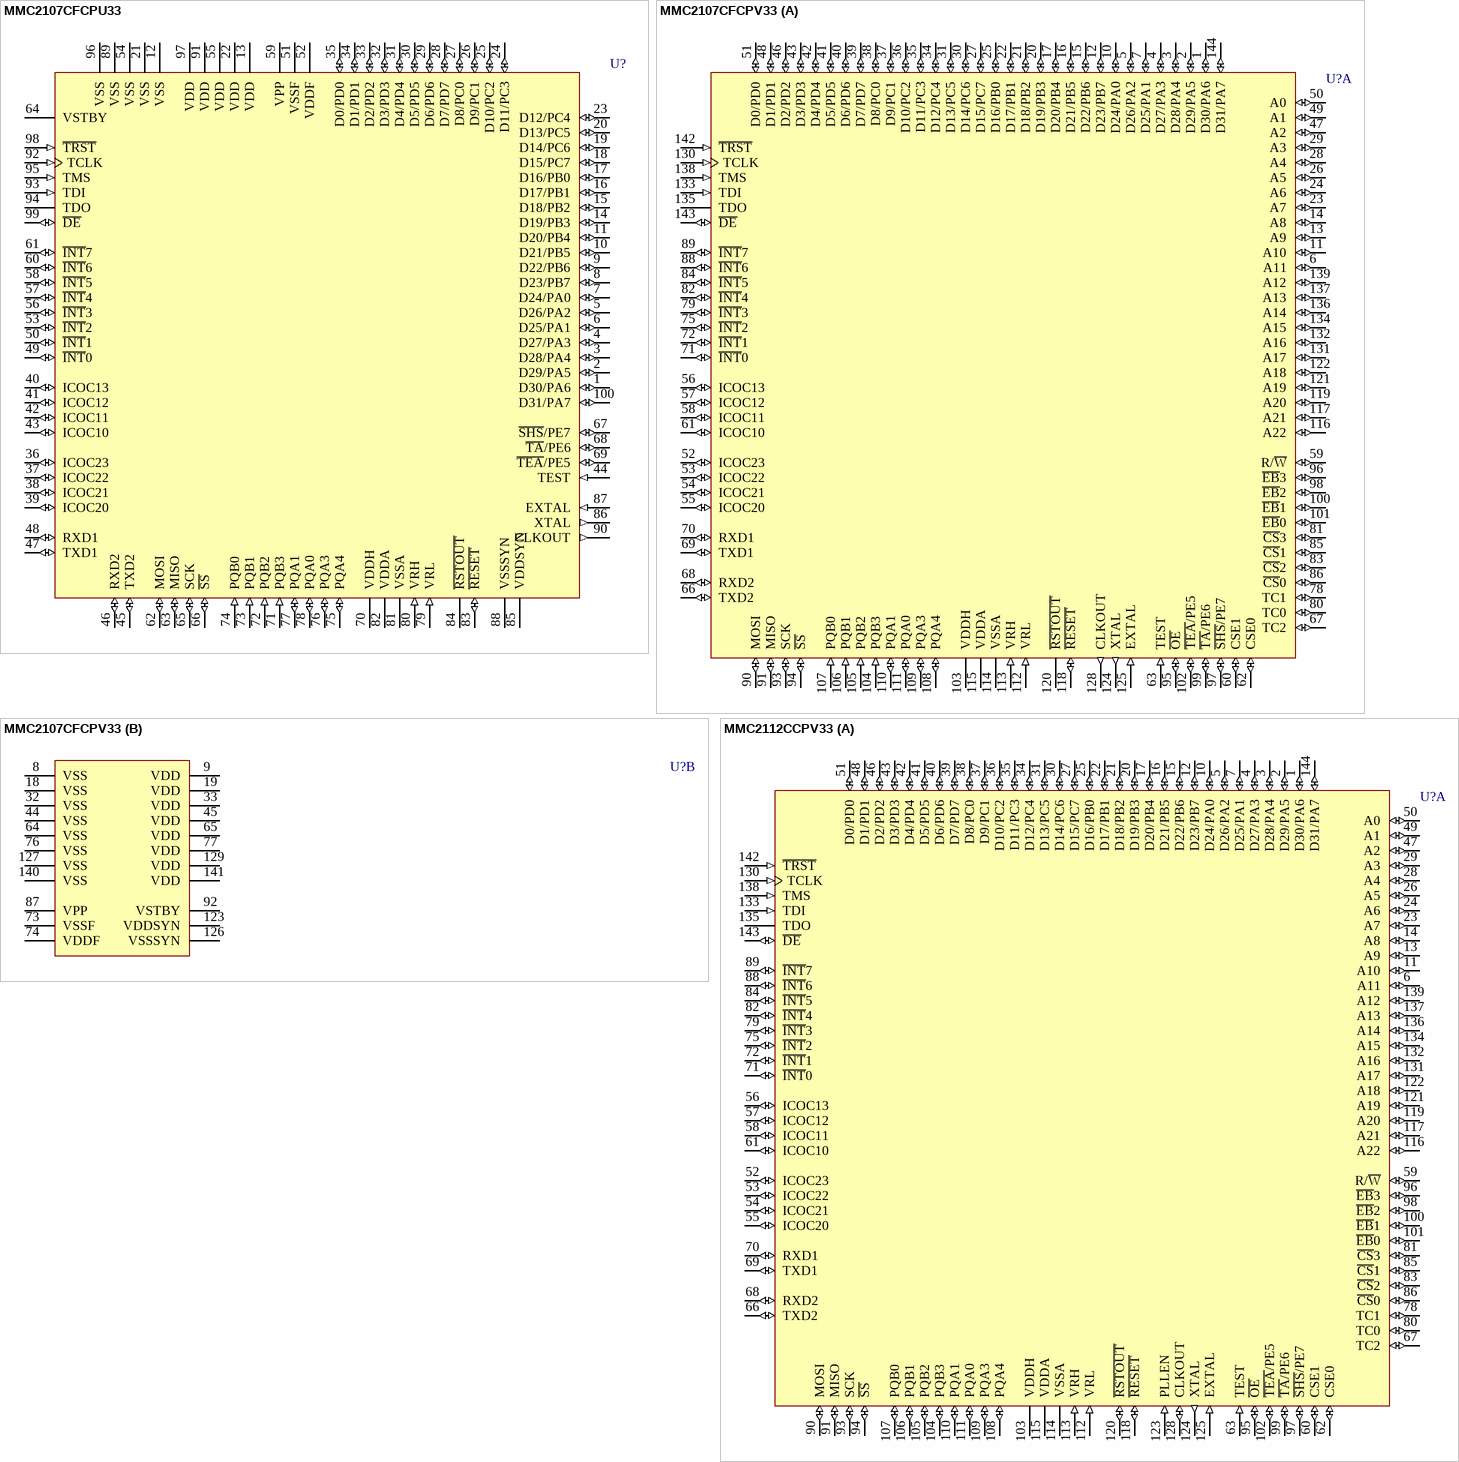
[diagram p193: symbols MMC2107CFCPU33 to MMC2112CCPV33]

## MMC2107CFCPU33
designator U?
32-Bit Microcontroller; Published: 21-Mar-2003; LatestRevisionDate: 13-Apr-2006; LatestRevisionNote: IPC-7351 Footprint Added.; DatasheetVersion: 8-Dec-2000; PackageVersion: rev3.1, Nov-2000; PackageReference: 983-02; Publisher: Altium Limited; PackageDescription: 100-Pin Shrink Quad Flat Pack 0.5 mm Pitch; Code_IPC: SQFP50P1600X1600-100; ComponentLink1Description: Manufacturer Link; ComponentLink1URL: http://www.freescale.com/
footprint 983-02_N (Shrink QFP, 100-Leads, Body 14x14mm, Pitch 0.5mm, IPC Medium Density)
footprint 983-02_L (Shrink QFP, 100-Leads, Body 14x14mm, Pitch 0.5mm, IPC High Density)
footprint 983-02_M (Shrink QFP, 100-Leads, Body 14x14mm, Pitch 0.5mm, IPC Low Density)
3D model MMC2107-983 (100-Pin Shrink Quad Flat Pack 0.5 mm Pitch)
pins: 1 D30/PA6 (io), 2 D29/PA5 (io), 3 D28/PA4 (io), 4 D27/PA3 (io), 5 D26/PA2 (io), 6 D25/PA1 (io), 7 D24/PA0 (io), 8 D23/PB7 (io), 9 D22/PB6 (io), 10 D21/PB5 (io), 11 D20/PB4 (io), 12 VSS (power), 13 VDD (power), 14 D19/PB3 (io), 15 D18/PB2 (io), 16 D17/PB1 (io), 17 D16/PB0 (io), 18 D15/PC7 (io), 19 D14/PC6 (io), 20 D13/PC5 (io), 21 VSS (power), 22 VDD (power), 23 D12/PC4 (io), 24 D11/PC3 (io), 25 D10/PC2 (io), 26 D9/PC1 (io), 27 D8/PC0 (io), 28 D7/PD7 (io), 29 D6/PD6 (io), 30 D5/PD5 (io), 31 D4/PD4 (io), 32 D3/PD3 (io), 33 D2/PD2 (io), 34 D1/PD1 (io), 35 D0/PD0 (io), 36 ICOC23 (io), 37 ICOC22 (io), 38 ICOC21 (io), 39 ICOC20 (io), 40 ICOC13 (io), 41 ICOC12 (io), 42 ICOC11 (io), 43 ICOC10 (io), 44 TEST (in), 45 TXD2 (io), 46 RXD2 (io), 47 TXD1 (io), 48 RXD1 (io), 49 ~{INT}0 (io), 50 ~{INT}1 (io), 51 VSSF (power), 52 VDDF (power), 53 ~{INT}2 (io), 54 VSS (power), 55 VDD (power), 56 ~{INT}3 (io), 57 ~{INT}4 (io), 58 ~{INT}5 (io), 59 VPP (power), 60 ~{INT}6 (io), 61 ~{INT}7 (io), 62 MOSI (io), 63 MISO (io), 64 VSTBY (power), 65 SCK (io), 66 ~{SS} (io), 67 ~{SHS}/PE7 (io), 68 ~{TA}/PE6 (io), 69 ~{TEA}/PE5 (io), 70 VDDH (power), 71 PQB3 (in), 72 PQB2 (in), 73 PQB1 (in), 74 PQB0 (in), 75 PQA4 (io), 76 PQA3 (io), 77 PQA1 (io), 78 PQA0 (io), 79 VRL (in), 80 VRH (in), 81 VSSA (power), 82 VDDA (power), 83 ~{RESET} (io), 84 ~{RSTOUT} (hiz), 85 VDDSYN (power), 86 XTAL (out), 87 EXTAL (in), 88 VSSSYN (power), 89 VSS (power), 90 CLKOUT (out), 91 VDD (power), 92 TCLK (in), 93 TDI (in), 94 TDO (hiz), 95 TMS (in), 96 VSS (power), 97 VDD (power), 98 ~{TRST} (in), 99 ~{DE} (io), 100 D31/PA7 (io)

## MMC2107CFCPV33
designator U?
32-Bit Microcontroller; Published: 21-Mar-2003; LatestRevisionDate: 13-Apr-2006; LatestRevisionNote: IPC-7351 Footprint Added.; DatasheetVersion: 8-Dec-2000; PackageVersion: rev7, Jan-2002; PackageReference: 918-03; Publisher: Altium Limited; PackageDescription: 144-Pin Thin Quad Flat Pack 0.5 mm Pitch; ComponentLink1Description: Manufacturer Link; ComponentLink1URL: http://www.freescale.com/
footprint 918-03_N (Thin QFP, 144-Leads, Body 20x20mm, Pitch 0.5mm, IPC Medium Density)
footprint 918-03_L (Thin QFP, 144-Leads, Body 20x20mm, Pitch 0.5mm, IPC High Density)
footprint 918-03_M (Thin QFP, 144-Leads, Body 20x20mm, Pitch 0.5mm, IPC Low Density)
3D model MMC2107-918 (144-Pin Thin Quad Flat Pack 0.5 mm Pitch)
part A pins: 1 D30/PA6 (io), 2 D29/PA5 (io), 3 D28/PA4 (io), 4 D27/PA3 (io), 5 D26/PA2 (io), 6 A11 (io), 7 D25/PA1 (io), 10 D24/PA0 (io), 11 A10 (io), 12 D23/PB7 (io), 13 A9 (io), 14 A8 (io), 15 D22/PB6 (io), 16 D21/PB5 (io), 17 D20/PB4 (io), 20 D19/PB3 (io), 21 D18/PB2 (io), 22 D17/PB1 (io), 23 A7 (io), 24 A6 (io), 25 D16/PB0 (io), 26 A5 (io), 27 D15/PC7 (io), 28 A4 (io), 29 A3 (io), 30 D14/PC6 (io), 31 D13/PC5 (io), 34 D12/PC4 (io), 35 D11/PC3 (io), 36 D10/PC2 (io), 37 D9/PC1 (io), 38 D8/PC0 (io), 39 D7/PD7 (io), 40 D6/PD6 (io), 41 D5/PD5 (io), 42 D4/PD4 (io), 43 D3/PD3 (io), 46 D2/PD2 (io), 47 A2 (io), 48 D1/PD1 (io), 49 A1 (io), 50 A0 (io), 51 D0/PD0 (io), 52 ICOC23 (io), 53 ICOC22 (io), 54 ICOC21 (io), 55 ICOC20 (io), 56 ICOC13 (io), 57 ICOC12 (io), 58 ICOC11 (io), 59 R/~{W} (io), 60 CSE1 (io), 61 ICOC10 (io), 62 CSE0 (io), 63 TEST (in), 66 TXD2 (io), 67 TC2 (io), 68 RXD2 (io), 69 TXD1 (io), 70 RXD1 (io), 71 ~{INT}0 (io), 72 ~{INT}1 (io), 75 ~{INT}2 (io), 78 TC1 (io), 79 ~{INT}3 (io), 80 TC0 (io), 81 ~{CS}3 (io), 82 ~{INT}4 (io), 83 ~{CS}2 (io), 84 ~{INT}5 (io), 85 ~{CS}1 (io), 86 ~{CS}0 (io), 88 ~{INT}6 (io), 89 ~{INT}7 (io), 90 MOSI (io), 91 MISO (io), 93 SCK (io), 94 ~{SS} (io), 95 ~{OE} (io), 96 ~{EB}3 (io), 97 ~{SHS}/PE7 (io), 98 ~{EB}2 (io), 99 ~{TA}/PE6 (io), 100 ~{EB}1 (io), 101 ~{EB}0 (io), 102 ~{TEA}/PE5 (io), 103 VDDH (power), 104 PQB3 (in), 105 PQB2 (in), 106 PQB1 (in), 107 PQB0 (in), 108 PQA4 (io), 109 PQA3 (io), 110 PQA1 (io), 111 PQA0 (io), 112 VRL (in), 113 VRH (in), 114 VSSA (power), 115 VDDA (power), 116 A22 (io), 117 A21 (io), 118 ~{RESET} (io), 119 A20 (io), 120 ~{RSTOUT} (hiz), 121 A19 (io), 122 A18 (io), 124 XTAL (out), 125 EXTAL (in), 128 CLKOUT (out), 130 TCLK (in), 131 A17 (io), 132 A16 (io), 133 TDI (in), 134 A15 (io), 135 TDO (hiz), 136 A14 (io), 137 A13 (io), 138 TMS (in), 139 A12 (io), 142 ~{TRST} (in), 143 ~{DE} (io), 144 D31/PA7 (io)
part B pins: 8 VSS (power), 9 VDD (power), 18 VSS (power), 19 VDD (power), 32 VSS (power), 33 VDD (power), 44 VSS (power), 45 VDD (power), 64 VSS (power), 65 VDD (power), 73 VSSF (power), 74 VDDF (power), 76 VSS (power), 77 VDD (power), 87 VPP (power), 92 VSTBY (power), 123 VDDSYN (power), 126 VSSSYN (power), 127 VSS (power), 129 VDD (power), 140 VSS (power), 141 VDD (power)

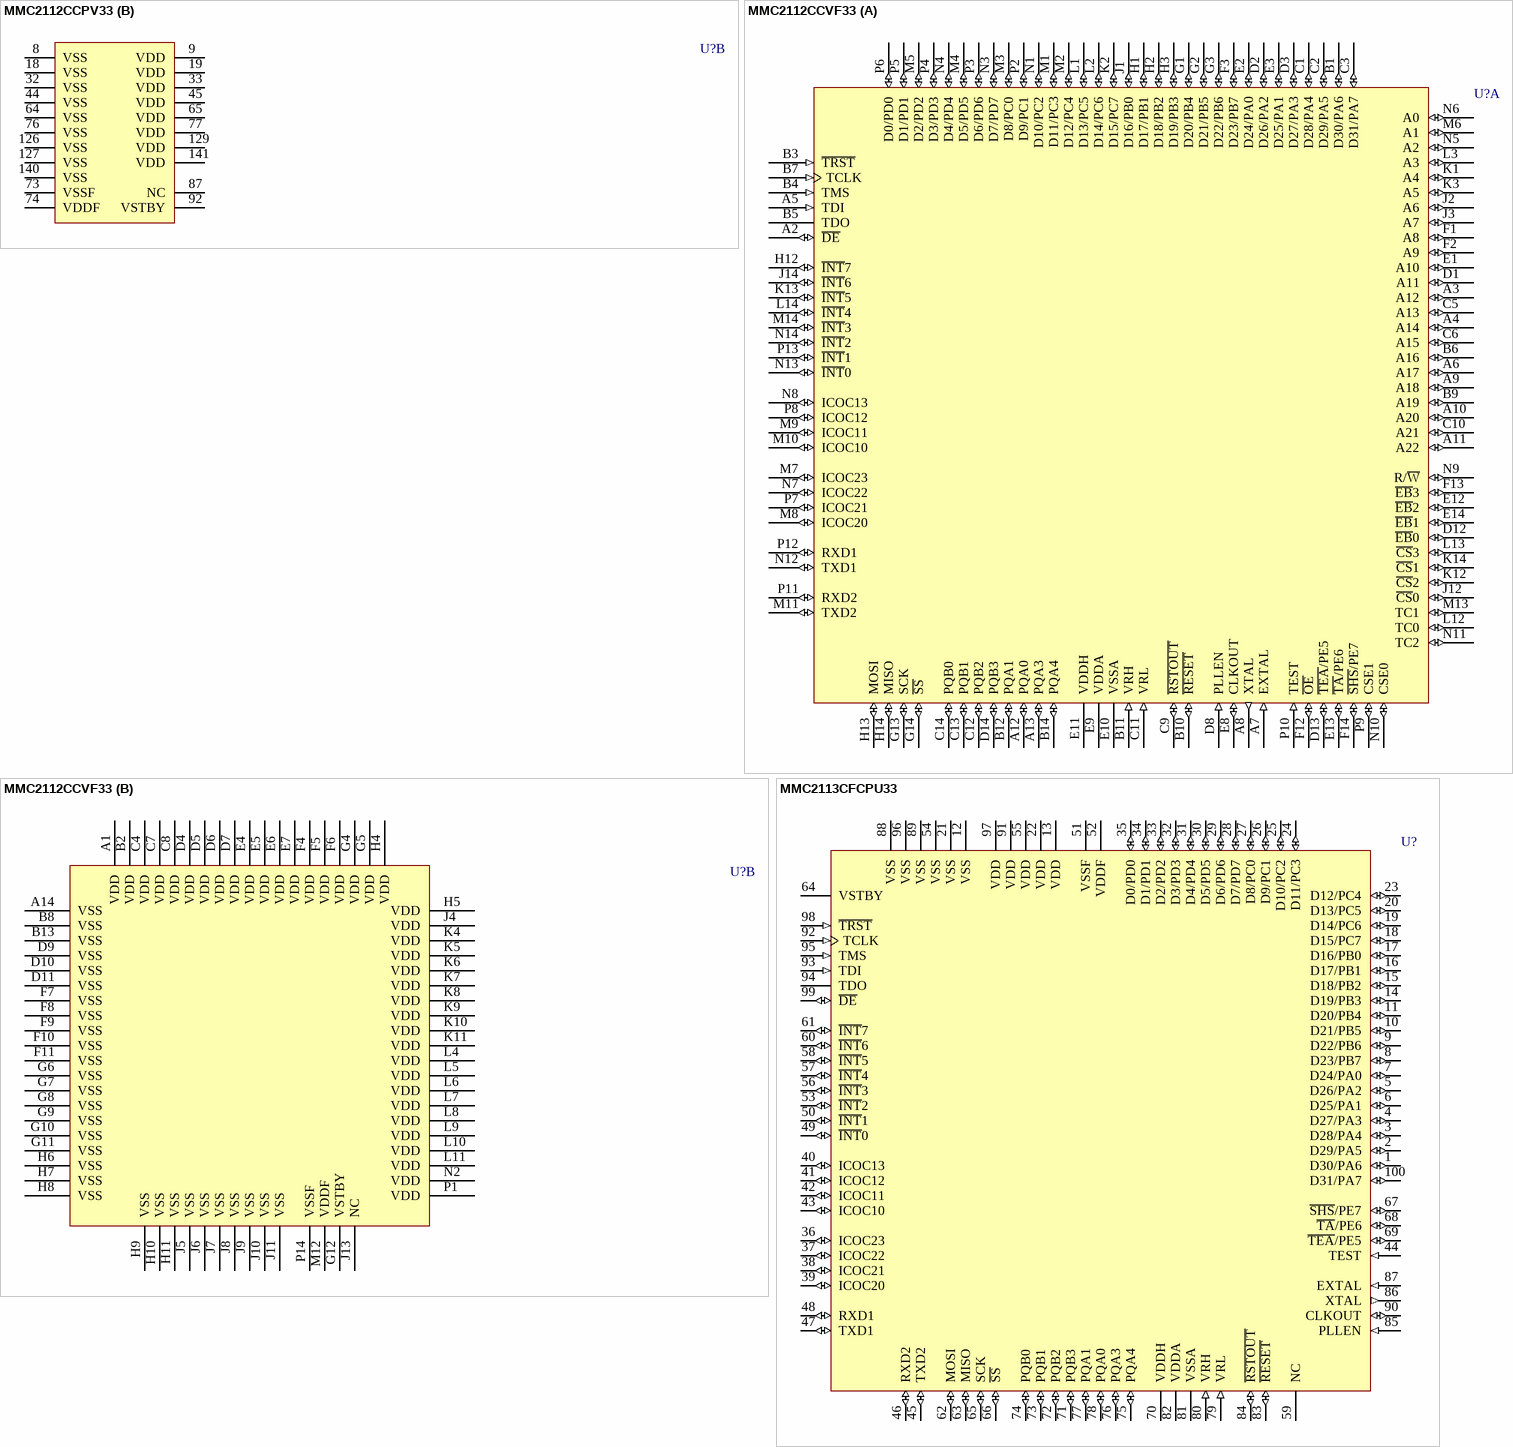
[diagram p194: symbols MMC2112CCPV33 to MMC2113CFCPU33]

## MMC2112CCPV33
designator U?
32-Bit Microcontroller; Published: 21-Mar-2003; LatestRevisionDate: 13-Apr-2006; LatestRevisionNote: IPC-7351 Footprint Added.; DatasheetVersion: 18-Apr-2002; PackageVersion: rev7, Jan-2002; PackageReference: 918-03; Publisher: Altium Limited; PackageDescription: 144-Pin Thin Quad Flat Pack 0.5 mm Pitch; ComponentLink1Description: Manufacturer Link; ComponentLink1URL: http://www.freescale.com/; ComponentLink2Description: Datasheet; ComponentLink2URL: http://www.freescale.com/files/32bit/doc/ref_manual/MMC2114.pdf
footprint 918-03_N (Thin QFP, 144-Leads, Body 20x20mm, Pitch 0.5mm, IPC Medium Density)
footprint 918-03_L (Thin QFP, 144-Leads, Body 20x20mm, Pitch 0.5mm, IPC High Density)
footprint 918-03_M (Thin QFP, 144-Leads, Body 20x20mm, Pitch 0.5mm, IPC Low Density)
3D model MMC2112-918 (144-Pin Thin Quad Flat Pack 0.5 mm Pitch)
part A pins: 1 D30/PA6 (io), 2 D29/PA5 (io), 3 D28/PA4 (io), 4 D27/PA3 (io), 5 D26/PA2 (io), 6 A11 (io), 7 D25/PA1 (io), 10 D24/PA0 (io), 11 A10 (io), 12 D23/PB7 (io), 13 A9 (io), 14 A8 (io), 15 D22/PB6 (io), 16 D21/PB5 (io), 17 D20/PB4 (io), 20 D19/PB3 (io), 21 D18/PB2 (io), 22 D17/PB1 (io), 23 A7 (io), 24 A6 (io), 25 D16/PB0 (io), 26 A5 (io), 27 D15/PC7 (io), 28 A4 (io), 29 A3 (io), 30 D14/PC6 (io), 31 D13/PC5 (io), 34 D12/PC4 (io), 35 D11/PC3 (io), 36 D10/PC2 (io), 37 D9/PC1 (io), 38 D8/PC0 (io), 39 D7/PD7 (io), 40 D6/PD6 (io), 41 D5/PD5 (io), 42 D4/PD4 (io), 43 D3/PD3 (io), 46 D2/PD2 (io), 47 A2 (io), 48 D1/PD1 (io), 49 A1 (io), 50 A0 (io), 51 D0/PD0 (io), 52 ICOC23 (io), 53 ICOC22 (io), 54 ICOC21 (io), 55 ICOC20 (io), 56 ICOC13 (io), 57 ICOC12 (io), 58 ICOC11 (io), 59 R/~{W} (io), 60 CSE1 (io), 61 ICOC10 (io), 62 CSE0 (io), 63 TEST (in), 66 TXD2 (io), 67 TC2 (io), 68 RXD2 (io), 69 TXD1 (io), 70 RXD1 (io), 71 ~{INT}0 (io), 72 ~{INT}1 (io), 75 ~{INT}2 (io), 78 TC1 (io), 79 ~{INT}3 (io), 80 TC0 (io), 81 ~{CS}3 (io), 82 ~{INT}4 (io), 83 ~{CS}2 (io), 84 ~{INT}5 (io), 85 ~{CS}1 (io), 86 ~{CS}0 (io), 88 ~{INT}6 (io), 89 ~{INT}7 (io), 90 MOSI (io), 91 MISO (io), 93 SCK (io), 94 ~{SS} (io), 95 ~{OE} (io), 96 ~{EB}3 (io), 97 ~{SHS}/PE7 (io), 98 ~{EB}2 (io), 99 ~{TA}/PE6 (io), 100 ~{EB}1 (io), 101 ~{EB}0 (io), 102 ~{TEA}/PE5 (io), 103 VDDH (power), 104 PQB3 (io), 105 PQB2 (io), 106 PQB1 (io), 107 PQB0 (io), 108 PQA4 (io), 109 PQA3 (io), 110 PQA1 (io), 111 PQA0 (io), 112 VRL (in), 113 VRH (in), 114 VSSA (power), 115 VDDA (power), 116 A22 (io), 117 A21 (io), 118 ~{RESET} (io), 119 A20 (io), 120 ~{RSTOUT} (io), 121 A19 (io), 122 A18 (io), 123 PLLEN (in), 124 XTAL (out), 125 EXTAL (in), 128 CLKOUT (io), 130 TCLK (in), 131 A17 (io), 132 A16 (io), 133 TDI (in), 134 A15 (io), 135 TDO (hiz), 136 A14 (io), 137 A13 (io), 138 TMS (in), 139 A12 (io), 142 ~{TRST} (in), 143 ~{DE} (io), 144 D31/PA7 (io)
part B pins: 8 VSS (power), 9 VDD (power), 18 VSS (power), 19 VDD (power), 32 VSS (power), 33 VDD (power), 44 VSS (power), 45 VDD (power), 64 VSS (power), 65 VDD (power), 73 VSSF (power), 74 VDDF (power), 76 VSS (power), 77 VDD (power), 87 NC, 92 VSTBY (power), 126 VSS (power), 127 VSS (power), 129 VDD (power), 140 VSS (power), 141 VDD (power)

## MMC2112CCVF33
designator U?
32-Bit Microcontroller; Published: 21-Mar-2003; LatestRevisionDate: 13-Apr-2006; LatestRevisionNote: IPC-7351 Footprint Added.; DatasheetVersion: 18-Apr-2002; PackageVersion: rev1.0, Apr-2002; PackageReference: 1128C-02; Publisher: Altium Limited; PackageDescription: 196-Ball MAP-Ball Grid Array 1 mm Pitch; ComponentLink1Description: Manufacturer Link; ComponentLink1URL: http://www.freescale.com/; ComponentLink2Description: Datasheet; ComponentLink2URL: http://www.freescale.com/files/32bit/doc/ref_manual/MMC2114.pdf
footprint 1128C-02 (BGA, 196-Leads, Body 15x15mm, Pitch 1mm)
3D model MMC2112-1128C-02 (196-Ball MAP-Ball Grid Array 1 mm Pitch)
part A pins: A2 ~{DE} (io), A3 A12 (io), A4 A14 (io), A5 TDI (in), A6 A17 (io), A7 EXTAL (in), A8 XTAL (out), A9 A18 (io), A10 A20 (io), A11 A22 (io), A12 PQA0 (io), A13 PQA3 (io), B1 D30/PA6 (io), B3 ~{TRST} (in), B4 TMS (in), B5 TDO (hiz), B6 A16 (io), B7 TCLK (in), B9 A19 (io), B10 ~{RESET} (io), B11 VRH (in), B12 PQA1 (io), B14 PQA4 (io), C1 D28/PA4 (io), C2 D29/PA5 (io), C3 D31/PA7 (io), C5 A13 (io), C6 A15 (io), C9 ~{RSTOUT} (io), C10 A21 (io), C11 VRL (in), C12 PQB2 (io), C13 PQB1 (io), C14 PQB0 (io), D1 A11 (io), D2 D26/PA2 (io), D3 D27/PA3 (io), D8 PLLEN (in), D12 ~{EB}0 (io), D13 ~{TEA}/PE5 (io), D14 PQB3 (io), E1 A10 (io), E2 D24/PA0 (io), E3 D25/PA1 (io), E8 CLKOUT (io), E9 VDDA (power), E10 VSSA (power), E11 VDDH (power), E12 ~{EB}2 (io), E13 ~{TA}/PE6 (io), E14 ~{EB}1 (io), F1 A8 (io), F2 A9 (io), F3 D23/PB7 (io), F12 ~{OE} (io), F13 ~{EB}3 (io), F14 ~{SHS}/PE7 (io), G1 D20/PB4 (io), G2 D21/PB5 (io), G3 D22/PB6 (io), G13 SCK (io), G14 ~{SS} (io), H1 D17/PB1 (io), H2 D18/PB2 (io), H3 D19/PB3 (io), H12 ~{INT}7 (io), H13 MOSI (io), H14 MISO (io), J1 D16/PB0 (io), J2 A6 (io), J3 A7 (io), J12 ~{CS}0 (io), J14 ~{INT}6 (io), K1 A4 (io), K2 D15/PC7 (io), K3 A5 (io), K12 ~{CS}2 (io), K13 ~{INT}5 (io), K14 ~{CS}1 (io), L1 D13/PC5 (io), L2 D14/PC6 (io), L3 A3 (io), L12 TC0 (io), L13 ~{CS}3 (io), L14 ~{INT}4 (io), M1 D11/PC3 (io), M2 D12/PC4 (io), M3 D8/PC0 (io), M4 D5/PD5 (io), M5 D2/PD2 (io), M6 A1 (io), M7 ICOC23 (io), M8 ICOC20 (io), M9 ICOC11 (io), M10 ICOC10 (io), M11 TXD2 (io), M13 TC1 (io), M14 ~{INT}3 (io), N1 D10/PC2 (io), N3 D7/PD7 (io), N4 D4/PD4 (io), N5 A2 (io), N6 A0 (io), N7 ICOC22 (io), N8 ICOC13 (io), N9 R/~{W} (io), N10 CSE0 (io), N11 TC2 (io), N12 TXD1 (io), N13 ~{INT}0 (io), N14 ~{INT}2 (io), P2 D9/PC1 (io), P3 D6/PD6 (io), P4 D3/PD3 (io), P5 D1/PD1 (io), P6 D0/PD0 (io), P7 ICOC21 (io), P8 ICOC12 (io), P9 CSE1 (io), P10 TEST (in), P11 RXD2 (io), P12 RXD1 (io), P13 ~{INT}1 (io)
part B pins: A1 VDD (power), A14 VSS (power), B2 VDD (power), B8 VSS (power), B13 VSS (power), C4 VDD (power), C7 VDD (power), C8 VDD (power), D4 VDD (power), D5 VDD (power), D6 VDD (power), D7 VDD (power), D9 VSS (power), D10 VSS (power), D11 VSS (power), E4 VDD (power), E5 VDD (power), E6 VDD (power), E7 VDD (power), F4 VDD (power), F5 VDD (power), F6 VDD (power), F7 VSS (power), F8 VSS (power), F9 VSS (power), F10 VSS (power), F11 VSS (power), G4 VDD (power), G5 VDD (power), G6 VSS (power), G7 VSS (power), G8 VSS (power), G9 VSS (power), G10 VSS (power), G11 VSS (power), G12 VSTBY (power), H4 VDD (power), H5 VDD (power), H6 VSS (power), H7 VSS (power), H8 VSS (power), H9 VSS (power), H10 VSS (power), H11 VSS (power), J4 VDD (power), J5 VSS (power), J6 VSS (power), J7 VSS (power), J8 VSS (power), J9 VSS (power), J10 VSS (power), J11 VSS (power), J13 NC, K4 VDD (power), K5 VDD (power), K6 VDD (power), K7 VDD (power), K8 VDD (power), K9 VDD (power), K10 VDD (power), K11 VDD (power), L4 VDD (power), L5 VDD (power), L6 VDD (power), L7 VDD (power), L8 VDD (power), L9 VDD (power), L10 VDD (power), L11 VDD (power), M12 VDDF (power), N2 VDD (power), P1 VDD (power), P14 VSSF (power)

## MMC2113CFCPU33
designator U?
32-Bit Microcontroller; Published: 21-Mar-2003; LatestRevisionDate: 13-Apr-2006; LatestRevisionNote: IPC-7351 Footprint Added.; DatasheetVersion: 18-Apr-2002; PackageVersion: rev3.1, Nov-2000; PackageReference: 983-02; Publisher: Altium Limited; PackageDescription: 100-Pin Shrink Quad Flat Pack 0.5 mm Pitch; Code_IPC: SQFP50P1600X1600-100; ComponentLink1Description: Manufacturer Link; ComponentLink1URL: http://www.freescale.com/; ComponentLink2Description: Datasheet; ComponentLink2URL: http://www.freescale.com/files/32bit/doc/ref_manual/MMC2114.pdf
footprint 983-02_N (Shrink QFP, 100-Leads, Body 14x14mm, Pitch 0.5mm, IPC Medium Density)
footprint 983-02_L (Shrink QFP, 100-Leads, Body 14x14mm, Pitch 0.5mm, IPC High Density)
footprint 983-02_M (Shrink QFP, 100-Leads, Body 14x14mm, Pitch 0.5mm, IPC Low Density)
3D model MMC2113-983 (100-Pin Shrink Quad Flat Pack 0.5 mm Pitch)
pins: 1 D30/PA6 (io), 2 D29/PA5 (io), 3 D28/PA4 (io), 4 D27/PA3 (io), 5 D26/PA2 (io), 6 D25/PA1 (io), 7 D24/PA0 (io), 8 D23/PB7 (io), 9 D22/PB6 (io), 10 D21/PB5 (io), 11 D20/PB4 (io), 12 VSS (power), 13 VDD (power), 14 D19/PB3 (io), 15 D18/PB2 (io), 16 D17/PB1 (io), 17 D16/PB0 (io), 18 D15/PC7 (io), 19 D14/PC6 (io), 20 D13/PC5 (io), 21 VSS (power), 22 VDD (power), 23 D12/PC4 (io), 24 D11/PC3 (io), 25 D10/PC2 (io), 26 D9/PC1 (io), 27 D8/PC0 (io), 28 D7/PD7 (io), 29 D6/PD6 (io), 30 D5/PD5 (io), 31 D4/PD4 (io), 32 D3/PD3 (io), 33 D2/PD2 (io), 34 D1/PD1 (io), 35 D0/PD0 (io), 36 ICOC23 (io), 37 ICOC22 (io), 38 ICOC21 (io), 39 ICOC20 (io), 40 ICOC13 (io), 41 ICOC12 (io), 42 ICOC11 (io), 43 ICOC10 (io), 44 TEST (in), 45 TXD2 (io), 46 RXD2 (io), 47 TXD1 (io), 48 RXD1 (io), 49 ~{INT}0 (io), 50 ~{INT}1 (io), 51 VSSF (power), 52 VDDF (power), 53 ~{INT}2 (io), 54 VSS (power), 55 VDD (power), 56 ~{INT}3 (io), 57 ~{INT}4 (io), 58 ~{INT}5 (io), 59 NC, 60 ~{INT}6 (io), 61 ~{INT}7 (io), 62 MOSI (io), 63 MISO (io), 64 VSTBY (power), 65 SCK (io), 66 ~{SS} (io), 67 ~{SHS}/PE7 (io), 68 ~{TA}/PE6 (io), 69 ~{TEA}/PE5 (io), 70 VDDH (power), 71 PQB3 (io), 72 PQB2 (io), 73 PQB1 (io), 74 PQB0 (io), 75 PQA4 (io), 76 PQA3 (io), 77 PQA1 (io), 78 PQA0 (io), 79 VRL (in), 80 VRH (in), 81 VSSA (power), 82 VDDA (power), 83 ~{RESET} (io), 84 ~{RSTOUT} (io), 85 PLLEN (in), 86 XTAL (out), 87 EXTAL (in), 88 VSS (power), 89 VSS (power), 90 CLKOUT (io), 91 VDD (power), 92 TCLK (in), 93 TDI (in), 94 TDO (hiz), 95 TMS (in), 96 VSS (power), 97 VDD (power), 98 ~{TRST} (in), 99 ~{DE} (io), 100 D31/PA7 (io)

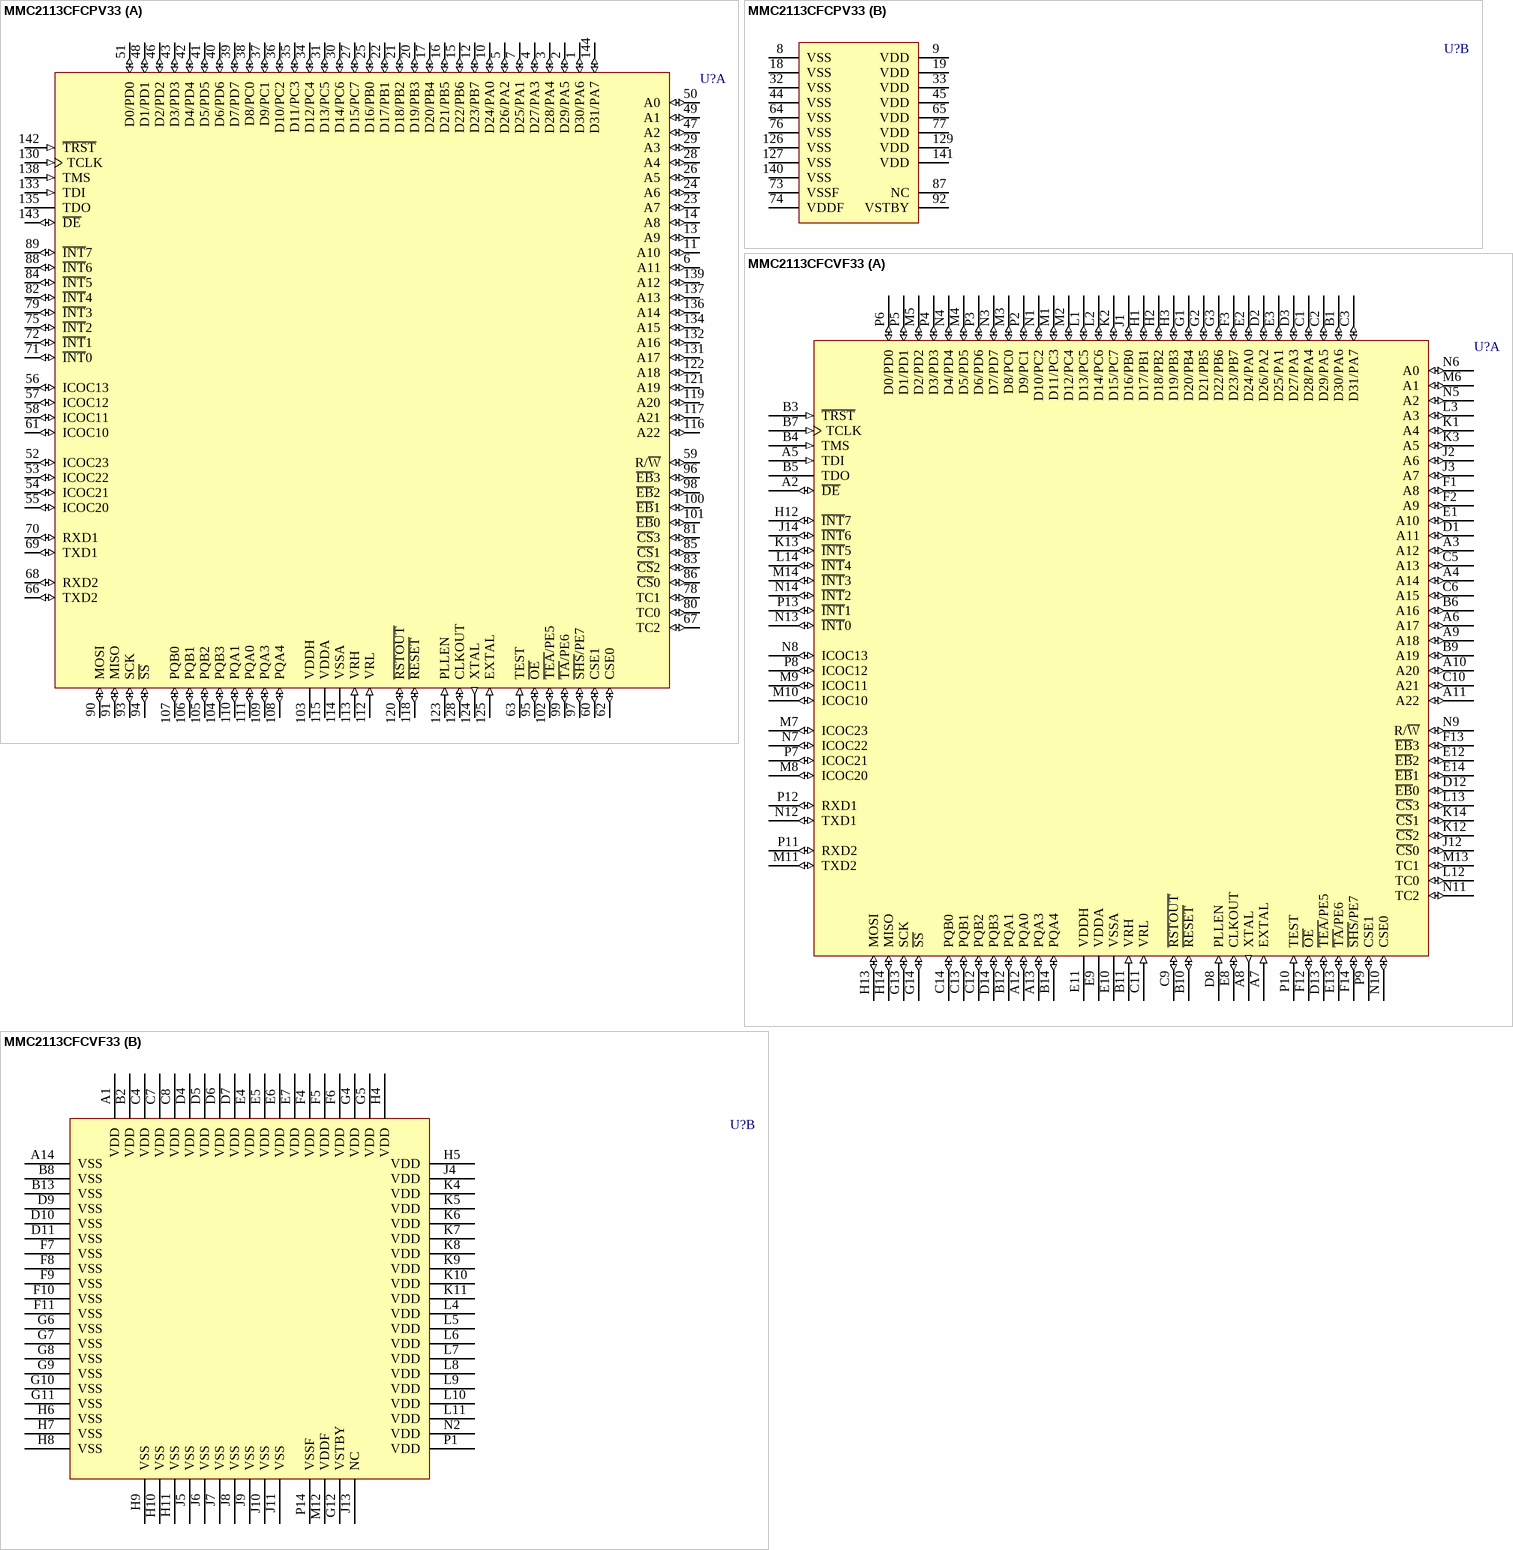
[diagram p195: symbols MMC2113CFCPV33 to MMC2113CFCVF33]

## MMC2113CFCPV33
designator U?
32-Bit Microcontroller; Published: 21-Mar-2003; LatestRevisionDate: 13-Apr-2006; LatestRevisionNote: IPC-7351 Footprint Added.; DatasheetVersion: 18-Apr-2002; PackageVersion: rev7, Jan-2002; PackageReference: 918-03; Publisher: Altium Limited; PackageDescription: 144-Pin Thin Quad Flat Pack 0.5 mm Pitch; ComponentLink1Description: Manufacturer Link; ComponentLink1URL: http://www.freescale.com/; ComponentLink2Description: Datasheet; ComponentLink2URL: http://www.freescale.com/files/32bit/doc/ref_manual/MMC2114.pdf
footprint 918-03_N (Thin QFP, 144-Leads, Body 20x20mm, Pitch 0.5mm, IPC Medium Density)
footprint 918-03_L (Thin QFP, 144-Leads, Body 20x20mm, Pitch 0.5mm, IPC High Density)
footprint 918-03_M (Thin QFP, 144-Leads, Body 20x20mm, Pitch 0.5mm, IPC Low Density)
3D model MMC2113-918 (144-Pin Thin Quad Flat Pack 0.5 mm Pitch)
part A pins: 1 D30/PA6 (io), 2 D29/PA5 (io), 3 D28/PA4 (io), 4 D27/PA3 (io), 5 D26/PA2 (io), 6 A11 (io), 7 D25/PA1 (io), 10 D24/PA0 (io), 11 A10 (io), 12 D23/PB7 (io), 13 A9 (io), 14 A8 (io), 15 D22/PB6 (io), 16 D21/PB5 (io), 17 D20/PB4 (io), 20 D19/PB3 (io), 21 D18/PB2 (io), 22 D17/PB1 (io), 23 A7 (io), 24 A6 (io), 25 D16/PB0 (io), 26 A5 (io), 27 D15/PC7 (io), 28 A4 (io), 29 A3 (io), 30 D14/PC6 (io), 31 D13/PC5 (io), 34 D12/PC4 (io), 35 D11/PC3 (io), 36 D10/PC2 (io), 37 D9/PC1 (io), 38 D8/PC0 (io), 39 D7/PD7 (io), 40 D6/PD6 (io), 41 D5/PD5 (io), 42 D4/PD4 (io), 43 D3/PD3 (io), 46 D2/PD2 (io), 47 A2 (io), 48 D1/PD1 (io), 49 A1 (io), 50 A0 (io), 51 D0/PD0 (io), 52 ICOC23 (io), 53 ICOC22 (io), 54 ICOC21 (io), 55 ICOC20 (io), 56 ICOC13 (io), 57 ICOC12 (io), 58 ICOC11 (io), 59 R/~{W} (io), 60 CSE1 (io), 61 ICOC10 (io), 62 CSE0 (io), 63 TEST (in), 66 TXD2 (io), 67 TC2 (io), 68 RXD2 (io), 69 TXD1 (io), 70 RXD1 (io), 71 ~{INT}0 (io), 72 ~{INT}1 (io), 75 ~{INT}2 (io), 78 TC1 (io), 79 ~{INT}3 (io), 80 TC0 (io), 81 ~{CS}3 (io), 82 ~{INT}4 (io), 83 ~{CS}2 (io), 84 ~{INT}5 (io), 85 ~{CS}1 (io), 86 ~{CS}0 (io), 88 ~{INT}6 (io), 89 ~{INT}7 (io), 90 MOSI (io), 91 MISO (io), 93 SCK (io), 94 ~{SS} (io), 95 ~{OE} (io), 96 ~{EB}3 (io), 97 ~{SHS}/PE7 (io), 98 ~{EB}2 (io), 99 ~{TA}/PE6 (io), 100 ~{EB}1 (io), 101 ~{EB}0 (io), 102 ~{TEA}/PE5 (io), 103 VDDH (power), 104 PQB3 (io), 105 PQB2 (io), 106 PQB1 (io), 107 PQB0 (io), 108 PQA4 (io), 109 PQA3 (io), 110 PQA1 (io), 111 PQA0 (io), 112 VRL (in), 113 VRH (in), 114 VSSA (power), 115 VDDA (power), 116 A22 (io), 117 A21 (io), 118 ~{RESET} (io), 119 A20 (io), 120 ~{RSTOUT} (io), 121 A19 (io), 122 A18 (io), 123 PLLEN (in), 124 XTAL (out), 125 EXTAL (in), 128 CLKOUT (io), 130 TCLK (in), 131 A17 (io), 132 A16 (io), 133 TDI (in), 134 A15 (io), 135 TDO (hiz), 136 A14 (io), 137 A13 (io), 138 TMS (in), 139 A12 (io), 142 ~{TRST} (in), 143 ~{DE} (io), 144 D31/PA7 (io)
part B pins: 8 VSS (power), 9 VDD (power), 18 VSS (power), 19 VDD (power), 32 VSS (power), 33 VDD (power), 44 VSS (power), 45 VDD (power), 64 VSS (power), 65 VDD (power), 73 VSSF (power), 74 VDDF (power), 76 VSS (power), 77 VDD (power), 87 NC, 92 VSTBY (power), 126 VSS (power), 127 VSS (power), 129 VDD (power), 140 VSS (power), 141 VDD (power)

## MMC2113CFCVF33
designator U?
32-Bit Microcontroller; Published: 21-Mar-2003; LatestRevisionDate: 13-Apr-2006; LatestRevisionNote: IPC-7351 Footprint Added.; DatasheetVersion: 18-Apr-2002; PackageVersion: rev1.0, Apr-2002; PackageReference: 1128C-02; Publisher: Altium Limited; PackageDescription: 196-Ball MAP-Ball Grid Array 1 mm Pitch; ComponentLink1Description: Manufacturer Link; ComponentLink1URL: http://www.freescale.com/; ComponentLink2Description: Datasheet; ComponentLink2URL: http://www.freescale.com/files/32bit/doc/ref_manual/MMC2114.pdf
footprint 1128C-02 (BGA, 196-Leads, Body 15x15mm, Pitch 1mm)
3D model MMC2113-1128C-02 (196-Ball MAP-Ball Grid Array 1 mm Pitch)
part A pins: A2 ~{DE} (io), A3 A12 (io), A4 A14 (io), A5 TDI (in), A6 A17 (io), A7 EXTAL (in), A8 XTAL (out), A9 A18 (io), A10 A20 (io), A11 A22 (io), A12 PQA0 (io), A13 PQA3 (io), B1 D30/PA6 (io), B3 ~{TRST} (in), B4 TMS (in), B5 TDO (hiz), B6 A16 (io), B7 TCLK (in), B9 A19 (io), B10 ~{RESET} (io), B11 VRH (in), B12 PQA1 (io), B14 PQA4 (io), C1 D28/PA4 (io), C2 D29/PA5 (io), C3 D31/PA7 (io), C5 A13 (io), C6 A15 (io), C9 ~{RSTOUT} (io), C10 A21 (io), C11 VRL (in), C12 PQB2 (io), C13 PQB1 (io), C14 PQB0 (io), D1 A11 (io), D2 D26/PA2 (io), D3 D27/PA3 (io), D8 PLLEN (in), D12 ~{EB}0 (io), D13 ~{TEA}/PE5 (io), D14 PQB3 (io), E1 A10 (io), E2 D24/PA0 (io), E3 D25/PA1 (io), E8 CLKOUT (io), E9 VDDA (power), E10 VSSA (power), E11 VDDH (power), E12 ~{EB}2 (io), E13 ~{TA}/PE6 (io), E14 ~{EB}1 (io), F1 A8 (io), F2 A9 (io), F3 D23/PB7 (io), F12 ~{OE} (io), F13 ~{EB}3 (io), F14 ~{SHS}/PE7 (io), G1 D20/PB4 (io), G2 D21/PB5 (io), G3 D22/PB6 (io), G13 SCK (io), G14 ~{SS} (io), H1 D17/PB1 (io), H2 D18/PB2 (io), H3 D19/PB3 (io), H12 ~{INT}7 (io), H13 MOSI (io), H14 MISO (io), J1 D16/PB0 (io), J2 A6 (io), J3 A7 (io), J12 ~{CS}0 (io), J14 ~{INT}6 (io), K1 A4 (io), K2 D15/PC7 (io), K3 A5 (io), K12 ~{CS}2 (io), K13 ~{INT}5 (io), K14 ~{CS}1 (io), L1 D13/PC5 (io), L2 D14/PC6 (io), L3 A3 (io), L12 TC0 (io), L13 ~{CS}3 (io), L14 ~{INT}4 (io), M1 D11/PC3 (io), M2 D12/PC4 (io), M3 D8/PC0 (io), M4 D5/PD5 (io), M5 D2/PD2 (io), M6 A1 (io), M7 ICOC23 (io), M8 ICOC20 (io), M9 ICOC11 (io), M10 ICOC10 (io), M11 TXD2 (io), M13 TC1 (io), M14 ~{INT}3 (io), N1 D10/PC2 (io), N3 D7/PD7 (io), N4 D4/PD4 (io), N5 A2 (io), N6 A0 (io), N7 ICOC22 (io), N8 ICOC13 (io), N9 R/~{W} (io), N10 CSE0 (io), N11 TC2 (io), N12 TXD1 (io), N13 ~{INT}0 (io), N14 ~{INT}2 (io), P2 D9/PC1 (io), P3 D6/PD6 (io), P4 D3/PD3 (io), P5 D1/PD1 (io), P6 D0/PD0 (io), P7 ICOC21 (io), P8 ICOC12 (io), P9 CSE1 (io), P10 TEST (in), P11 RXD2 (io), P12 RXD1 (io), P13 ~{INT}1 (io)
part B pins: A1 VDD (power), A14 VSS (power), B2 VDD (power), B8 VSS (power), B13 VSS (power), C4 VDD (power), C7 VDD (power), C8 VDD (power), D4 VDD (power), D5 VDD (power), D6 VDD (power), D7 VDD (power), D9 VSS (power), D10 VSS (power), D11 VSS (power), E4 VDD (power), E5 VDD (power), E6 VDD (power), E7 VDD (power), F4 VDD (power), F5 VDD (power), F6 VDD (power), F7 VSS (power), F8 VSS (power), F9 VSS (power), F10 VSS (power), F11 VSS (power), G4 VDD (power), G5 VDD (power), G6 VSS (power), G7 VSS (power), G8 VSS (power), G9 VSS (power), G10 VSS (power), G11 VSS (power), G12 VSTBY (power), H4 VDD (power), H5 VDD (power), H6 VSS (power), H7 VSS (power), H8 VSS (power), H9 VSS (power), H10 VSS (power), H11 VSS (power), J4 VDD (power), J5 VSS (power), J6 VSS (power), J7 VSS (power), J8 VSS (power), J9 VSS (power), J10 VSS (power), J11 VSS (power), J13 NC, K4 VDD (power), K5 VDD (power), K6 VDD (power), K7 VDD (power), K8 VDD (power), K9 VDD (power), K10 VDD (power), K11 VDD (power), L4 VDD (power), L5 VDD (power), L6 VDD (power), L7 VDD (power), L8 VDD (power), L9 VDD (power), L10 VDD (power), L11 VDD (power), M12 VDDF (power), N2 VDD (power), P1 VDD (power), P14 VSSF (power)

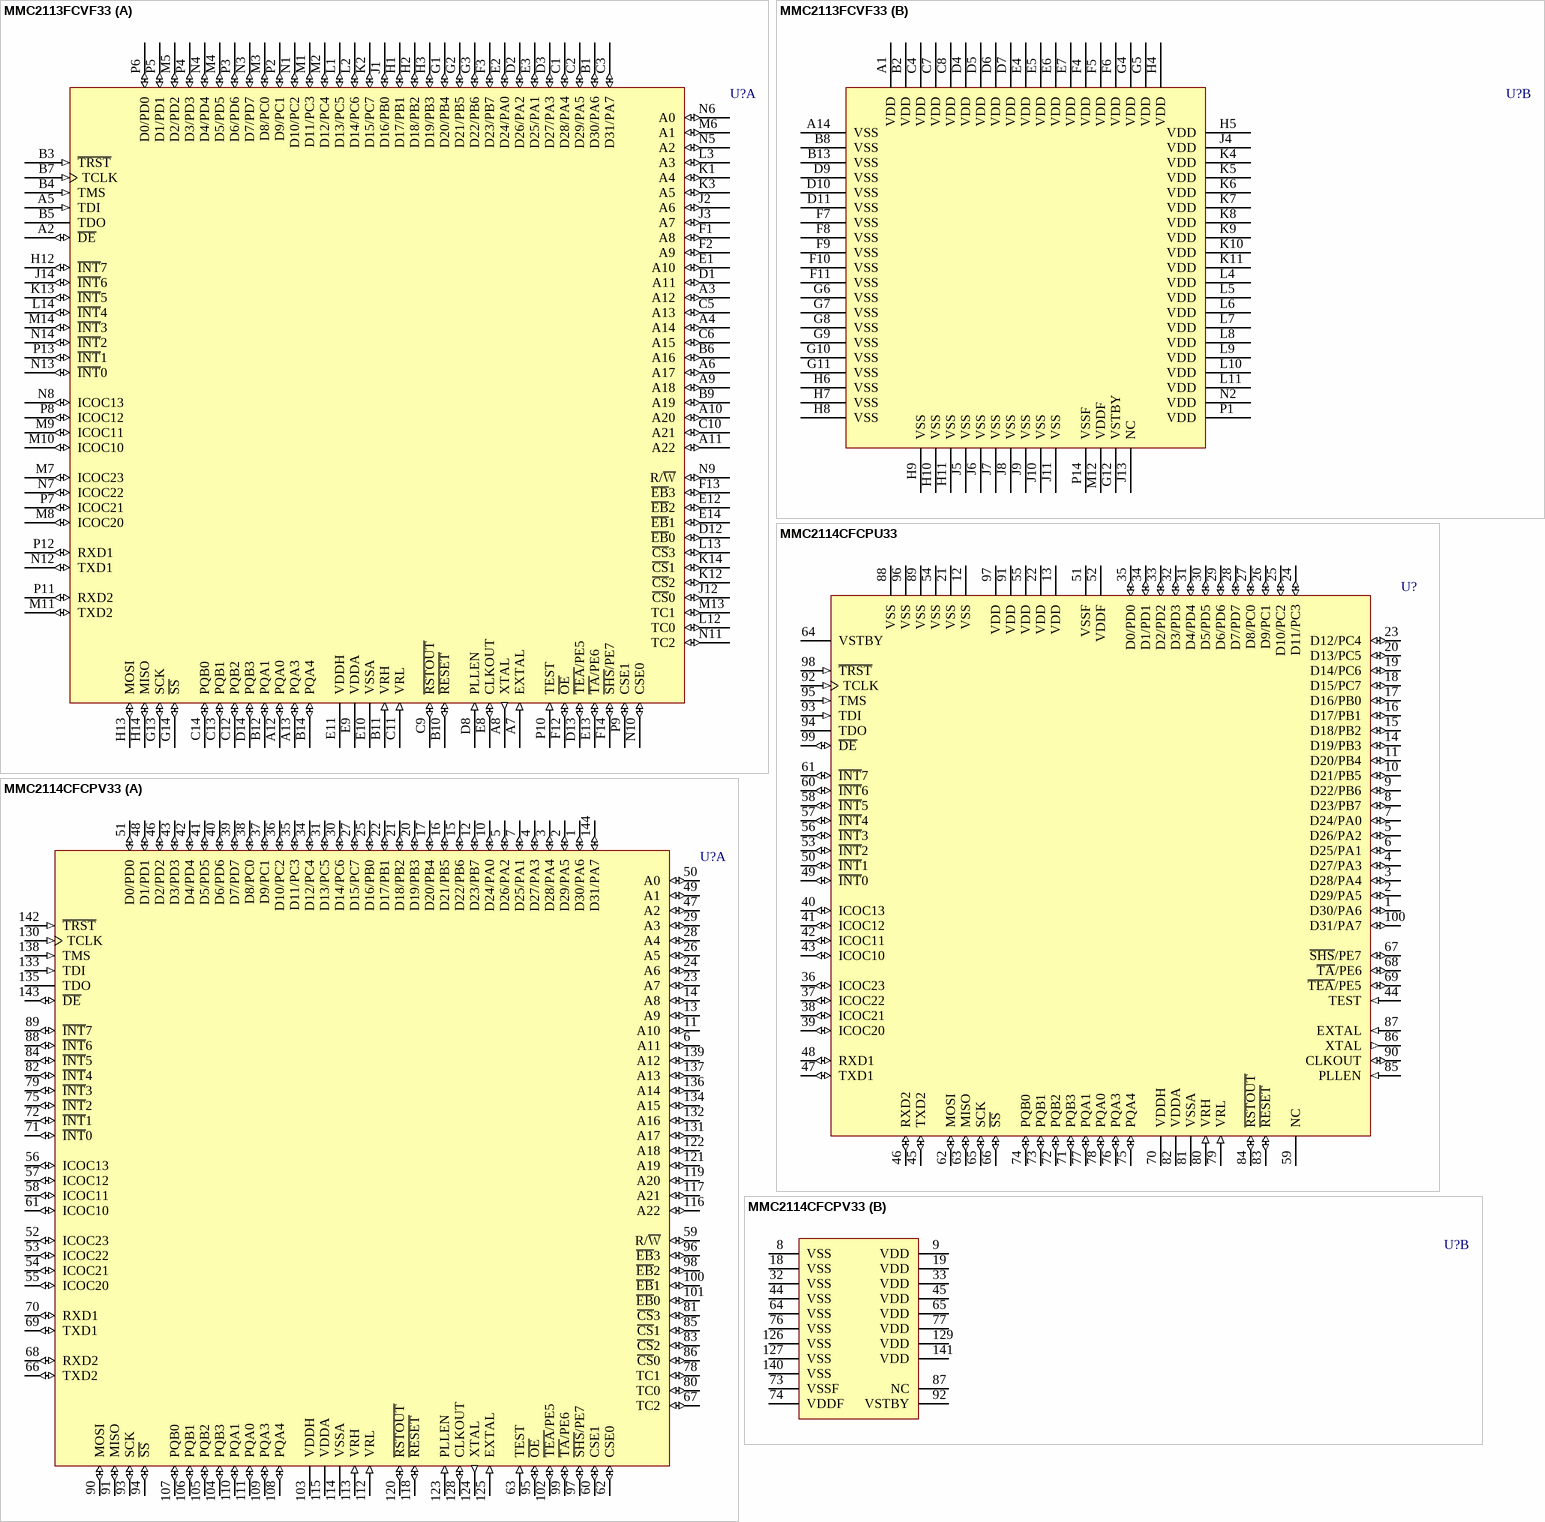
[diagram p196: symbols MMC2113FCVF33 to MMC2114CFCPV33]

## MMC2113FCVF33
designator U?
32-Bit Microcontroller; Published: 21-Mar-2003; LatestRevisionDate: 13-Apr-2006; LatestRevisionNote: IPC-7351 Footprint Added.; DatasheetVersion: 18-Apr-2002; PackageVersion: rev1.0, Apr-2002; PackageReference: 1128C-02; Publisher: Altium Limited; PackageDescription: 196-Ball MAP-Ball Grid Array 1 mm Pitch; ComponentLink1Description: Manufacturer Link; ComponentLink1URL: http://www.freescale.com/; ComponentLink2Description: Datasheet; ComponentLink2URL: http://www.freescale.com/files/32bit/doc/ref_manual/MMC2114.pdf
footprint 1128C-02 (BGA, 196-Leads, Body 15x15mm, Pitch 1mm)
3D model MMC2113-1128C-02 (196-Ball MAP-Ball Grid Array 1 mm Pitch)
part A pins: A2 ~{DE} (io), A3 A12 (io), A4 A14 (io), A5 TDI (in), A6 A17 (io), A7 EXTAL (in), A8 XTAL (out), A9 A18 (io), A10 A20 (io), A11 A22 (io), A12 PQA0 (io), A13 PQA3 (io), B1 D30/PA6 (io), B3 ~{TRST} (in), B4 TMS (in), B5 TDO (hiz), B6 A16 (io), B7 TCLK (in), B9 A19 (io), B10 ~{RESET} (io), B11 VRH (in), B12 PQA1 (io), B14 PQA4 (io), C1 D28/PA4 (io), C2 D29/PA5 (io), C3 D31/PA7 (io), C5 A13 (io), C6 A15 (io), C9 ~{RSTOUT} (io), C10 A21 (io), C11 VRL (in), C12 PQB2 (io), C13 PQB1 (io), C14 PQB0 (io), D1 A11 (io), D2 D26/PA2 (io), D3 D27/PA3 (io), D8 PLLEN (in), D12 ~{EB}0 (io), D13 ~{TEA}/PE5 (io), D14 PQB3 (io), E1 A10 (io), E2 D24/PA0 (io), E3 D25/PA1 (io), E8 CLKOUT (io), E9 VDDA (power), E10 VSSA (power), E11 VDDH (power), E12 ~{EB}2 (io), E13 ~{TA}/PE6 (io), E14 ~{EB}1 (io), F1 A8 (io), F2 A9 (io), F3 D23/PB7 (io), F12 ~{OE} (io), F13 ~{EB}3 (io), F14 ~{SHS}/PE7 (io), G1 D20/PB4 (io), G2 D21/PB5 (io), G3 D22/PB6 (io), G13 SCK (io), G14 ~{SS} (io), H1 D17/PB1 (io), H2 D18/PB2 (io), H3 D19/PB3 (io), H12 ~{INT}7 (io), H13 MOSI (io), H14 MISO (io), J1 D16/PB0 (io), J2 A6 (io), J3 A7 (io), J12 ~{CS}0 (io), J14 ~{INT}6 (io), K1 A4 (io), K2 D15/PC7 (io), K3 A5 (io), K12 ~{CS}2 (io), K13 ~{INT}5 (io), K14 ~{CS}1 (io), L1 D13/PC5 (io), L2 D14/PC6 (io), L3 A3 (io), L12 TC0 (io), L13 ~{CS}3 (io), L14 ~{INT}4 (io), M1 D11/PC3 (io), M2 D12/PC4 (io), M3 D8/PC0 (io), M4 D5/PD5 (io), M5 D2/PD2 (io), M6 A1 (io), M7 ICOC23 (io), M8 ICOC20 (io), M9 ICOC11 (io), M10 ICOC10 (io), M11 TXD2 (io), M13 TC1 (io), M14 ~{INT}3 (io), N1 D10/PC2 (io), N3 D7/PD7 (io), N4 D4/PD4 (io), N5 A2 (io), N6 A0 (io), N7 ICOC22 (io), N8 ICOC13 (io), N9 R/~{W} (io), N10 CSE0 (io), N11 TC2 (io), N12 TXD1 (io), N13 ~{INT}0 (io), N14 ~{INT}2 (io), P2 D9/PC1 (io), P3 D6/PD6 (io), P4 D3/PD3 (io), P5 D1/PD1 (io), P6 D0/PD0 (io), P7 ICOC21 (io), P8 ICOC12 (io), P9 CSE1 (io), P10 TEST (in), P11 RXD2 (io), P12 RXD1 (io), P13 ~{INT}1 (io)
part B pins: A1 VDD (power), A14 VSS (power), B2 VDD (power), B8 VSS (power), B13 VSS (power), C4 VDD (power), C7 VDD (power), C8 VDD (power), D4 VDD (power), D5 VDD (power), D6 VDD (power), D7 VDD (power), D9 VSS (power), D10 VSS (power), D11 VSS (power), E4 VDD (power), E5 VDD (power), E6 VDD (power), E7 VDD (power), F4 VDD (power), F5 VDD (power), F6 VDD (power), F7 VSS (power), F8 VSS (power), F9 VSS (power), F10 VSS (power), F11 VSS (power), G4 VDD (power), G5 VDD (power), G6 VSS (power), G7 VSS (power), G8 VSS (power), G9 VSS (power), G10 VSS (power), G11 VSS (power), G12 VSTBY (power), H4 VDD (power), H5 VDD (power), H6 VSS (power), H7 VSS (power), H8 VSS (power), H9 VSS (power), H10 VSS (power), H11 VSS (power), J4 VDD (power), J5 VSS (power), J6 VSS (power), J7 VSS (power), J8 VSS (power), J9 VSS (power), J10 VSS (power), J11 VSS (power), J13 NC, K4 VDD (power), K5 VDD (power), K6 VDD (power), K7 VDD (power), K8 VDD (power), K9 VDD (power), K10 VDD (power), K11 VDD (power), L4 VDD (power), L5 VDD (power), L6 VDD (power), L7 VDD (power), L8 VDD (power), L9 VDD (power), L10 VDD (power), L11 VDD (power), M12 VDDF (power), N2 VDD (power), P1 VDD (power), P14 VSSF (power)